# Altium schematic symbol library heromap.SchLib: 513 symbols (part 3 of 4)
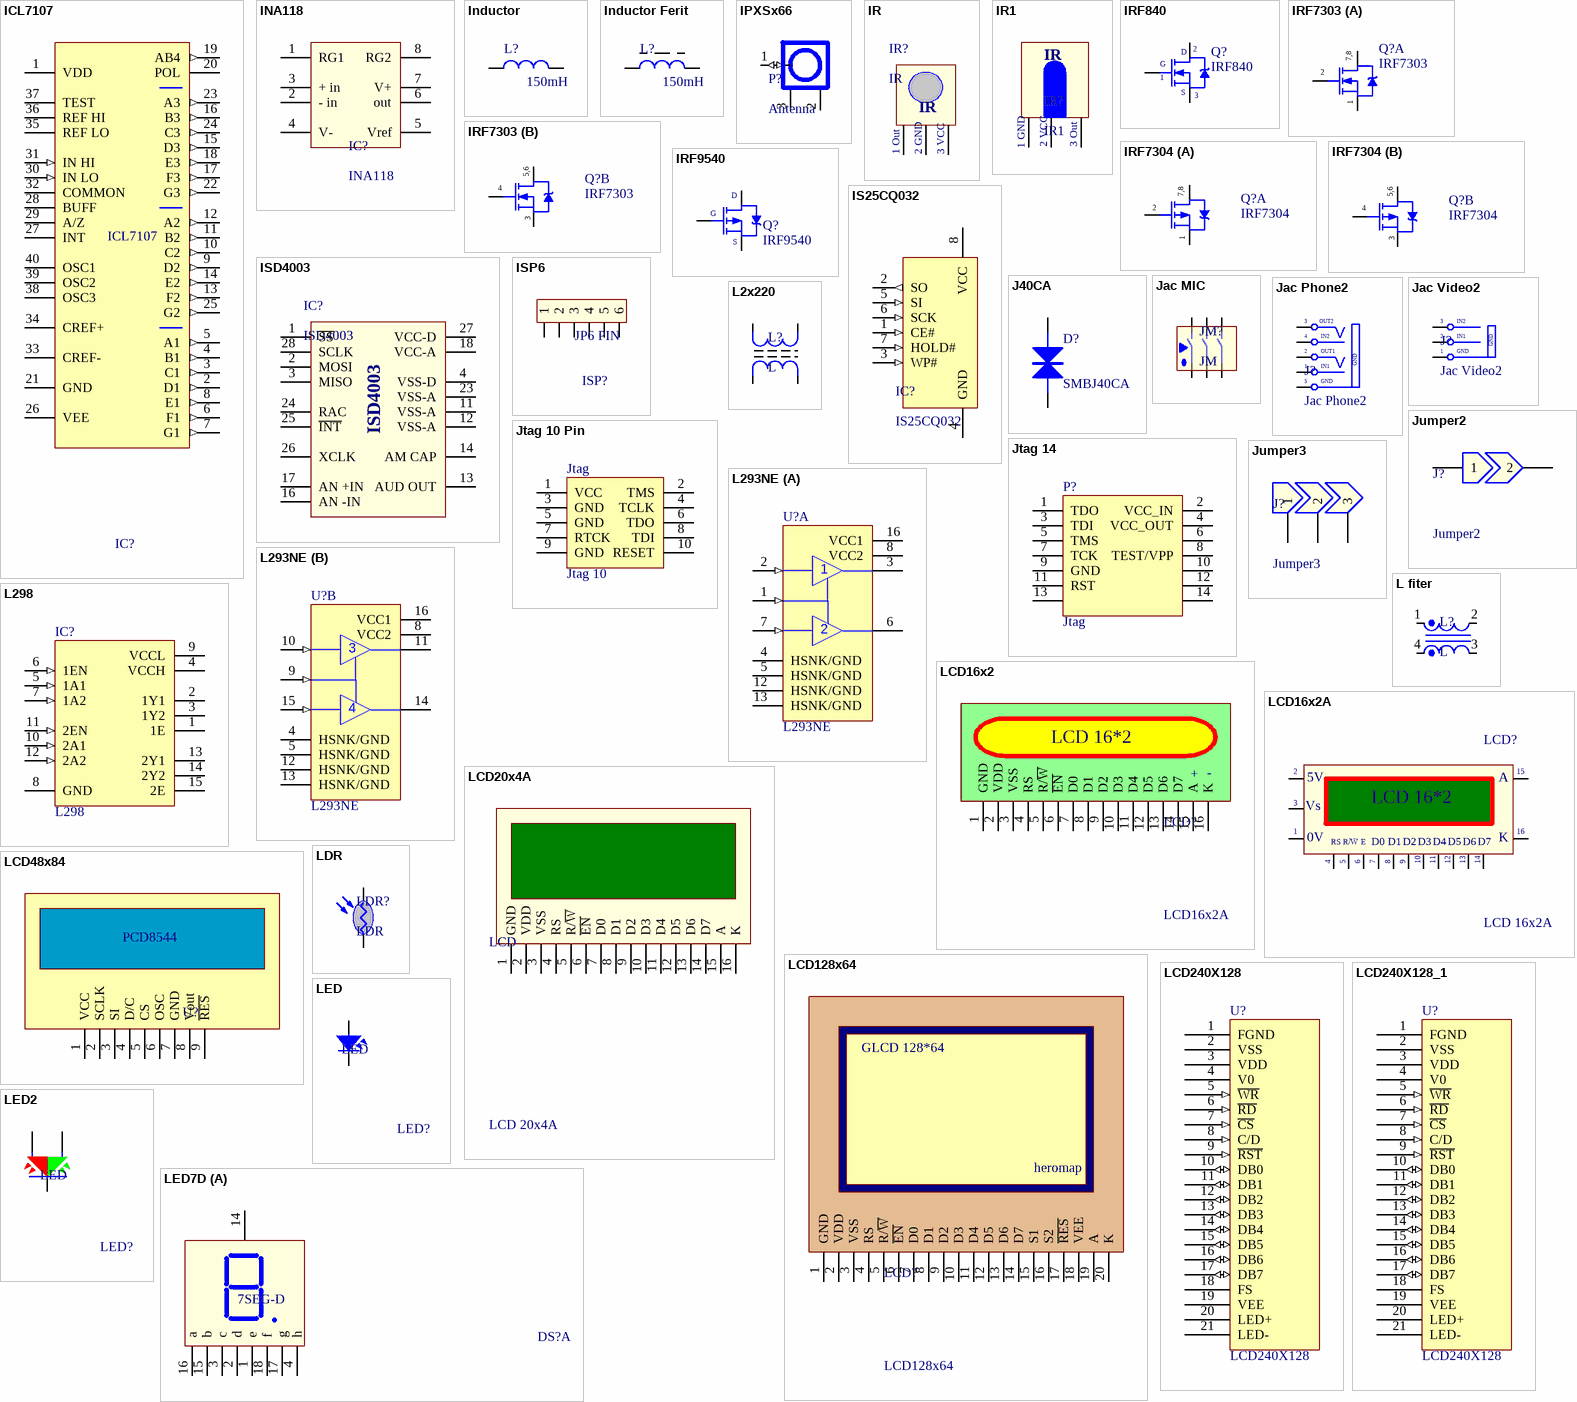
[diagram p21: symbols ICL7107 to LED7D]

## IRF7303
designator Q?
HEXFET Power MOSFET; Published: 8-Jun-2000; LatestRevisionDate: 13-Apr-2006; LatestRevisionNote: IPC-7351 Footprint Added.; DatasheetVersion: Aug-1997; PackageVersion: Feb-2001; PackageReference: SO-8; Publisher: Altium Limited; PackageDescription: 8-Pin Plastic Small Outline Integrated Circuit 1.27 mm Pitch; Code_JEDEC: MS-012-AA; Code_IPC: SOIC127P600-8; ComponentLink1Description: Manufacturer Link; ComponentLink1URL: http://www.irf.com/; ComponentLink2Description: Datasheet; ComponentLink2URL: http://www.irf.com/product-info/datasheets/data/irf7303.pdf
footprint TIWI_SL_MOD
simulation model IRF7303 (SUBCKT)
part A pins: 1 S, 2 G, 7 D, 8 D
part B pins: 3 S, 4 G, 5 D, 6 D
part A text: 7,8
part B text: 5,6

## IRF7304
designator Q?
HEXFET Power MOSFET; Published: 8-Jun-2000; LatestRevisionDate: 13-Apr-2006; LatestRevisionNote: IPC-7351 Footprint Added.; DatasheetVersion: Aug-1997; PackageVersion: Feb-2001; PackageReference: SO-8; Publisher: Altium Limited; PackageDescription: 8-Pin Plastic Small Outline Integrated Circuit 1.27 mm Pitch; Code_JEDEC: MS-012-AA; Code_IPC: SOIC127P600-8; ComponentLink1Description: Manufacturer Link; ComponentLink1URL: http://www.irf.com/; ComponentLink2Description: Datasheet; ComponentLink2URL: http://www.irf.com/product-info/datasheets/data/irf7304.pdf
footprint SO-8 (8-Pin Small Outline Integrated Circuit 1.27 mm Pitch, IPC Medium Density)
simulation model IRF7304 (SUBCKT)
part A pins: 1 S, 2 G, 7 D, 8 D
part B pins: 3 S, 4 G, 5 D, 6 D
part A text: 7,8
part B text: 5,6

## IRF9540
designator Q?
HEXFET P-Channel Power MOSFET; Note: Pin 2 is electrically connected to pin 4.; Published: 8-Jun-2000; LatestRevisionDate: 17-Jul-2002; LatestRevisionNote: Re-released for DXP Platform.; DatasheetVersion: PD-9.421C; PackageVersion: Feb-1997; PackageReference: TO-220AB; Publisher: Altium Limited; PackageDescription: TO, Thru-Hole, Vertical, Heatsink Mounted; 3 In-Line Leads; Pitch 2.54 mm; ComponentLink1Description: Manufacturer Link; ComponentLink1URL: http://www.irf.com/; ComponentLink2Description: Datasheet; ComponentLink2URL: http://www.irf.com/product-info/datasheets/data/irf9540.pdf
footprint QTO-220 (TO-220 - 1-2-3)
simulation model IRF9540 (SUBCKT)
pins: 1 G, 2 D, 3 S

## IS25CQ032
designator IC?
Flash 32Mbit
footprint SO-G8/Z7.45 (Small Outline; 8 Leads; Body Width 3.9 mm; Pitch 1.27 mm)
pins: 1 CE# (in), 2 SO (out), 3 WP# (in), 4 GND, 5 SI (in), 6 SCK (in), 7 HOLD# (in), 8 VCC

## ISD4003
designator IC?
Single-chip voice Record/Playback solution
footprint DIP28/W0.6 (DIP28/W.600, Pin to pin 100mil)
pins: 1 ~{SS}, 2 MOSI, 3 MISO, 4 VSS-D, 11 VSS-A, 12 VSS-A, 13 AUD OUT, 14 AM CAP, 16 AN -IN, 17 AN +IN, 18 VCC-A, 23 VSS-A, 24 RAC, 25 ~{INT}, 26 XCLK, 27 VCC-D, 28 SCLK

## ISP6
designator ISP?, comment JP6 PIN
ISP6 PIN; Value: JP7
footprint ISP6 (Jac nap PIC)
pins: 1, 2, 3, 4, 5, 6, 7, 8

## J40CA
designator D?  (value not drawn)
Trancient Voltage Suppressor SMBJ40CA, SMA
footprint SMAJ24CA
footprint SMB
pins: 1 A, 2 K
text: SMBJ40CA

## Jac MIC
designator JM?, comment JM
Jac Micro; Value: Jac MIC to 6 pin
footprint MIC6 (Jac Mic 6 pin to)
pins: 1, 2, 3, 4, 5, 6

## Jac Phone2
designator J?
Jac Phone Stereo; Creat by: VanDungEvn@Gmail.com
footprint JacPhone2 (Jac Phone Stereo)
footprint JAC_PHONE2 (Jac Phone Stereo)
pins: 1 S1 (power) "Sleeve (Ground)", 2 S1 "Tip Normal (Break Contact)", 3 TN "Tip Normal (Break Contact)", 4 S (power) "Sleeve (Ground)", 5 GND "Tip"
text: OUT2; IN2; OUT1; IN1

## Jac Video2
designator J?
Jac Video Stereo
footprint Jac Video2 (Jac Video Stereo)
pins: 1 GND "Tip", 2 S1 (power) "Sleeve (Ground)", 3 S2 "Tip Normal (Break Contact)"
text: IN2; IN1

## Jtag 10 Pin
designator Jtag, comment Jtag 10
Jtag 10 Pin; LatestRevisionDate: 17-Jul-2002; LatestRevisionNote: Re-released for DXP Platform.; Publisher: Altium Limited
footprint HDR2X5 (Connector; Header; 5x2 Position)
pins: 1 VCC, 2 TMS, 3 GND, 4 TCLK, 5 GND, 6 TDO, 7 RTCK, 8 TDI, 9 GND, 10 RESET

## Jtag 14
designator P?, comment Jtag
Jtag 14 pin & BSL for MSP430; LatestRevisionDate: 17-Jul-2002; LatestRevisionNote: Re-released for DXP Platform.; Publisher: Altium Limited
footprint HDR2X7 (Connector; Header; 7x2 Position)
pins: 1 TDO, 2 VCC_IN, 3 TDI, 4 VCC_OUT, 5 TMS, 6 NC, 7 TCK, 8 TEST/VPP, 9 GND, 10 NC, 11 RST, 12 BSL-Tx, 13 BSL_GND, 14 BSL-Rx

## Jumper2
designator J?
Jumper, 2-Pin
footprint Jumper2_SMD (Compoment SMD 80x50mil)
pins: 1, 2

## Jumper3
designator J?
Jumper, 3-Pin
footprint Jumper3-SMD (Footprint not found)
pins: 1, 2, 3

## L2x220
designator L?, comment L
Inductor; Value: Loc 220; Designed by: VanDungEvn
footprint L2x220 (Loc 220)
pins: 1, 2, 3, 4

## L293NE
designator U?
Quadruple Half-H Driver; Published: 15-May-2002; LatestRevisionDate: 04-Mar-2005; LatestRevisionNote: Stylized 3D Model Added.; DatasheetVersion: May-1990; PackageVersion: 1991; PackageReference: NE016; Publisher: Altium Limited; PackageDescription: DIP; 16 Leads; Row Spacing 7.62 mm; Pitch 2.54 mm; Code_JEDEC: MS-001-BB; ComponentLink1Description: Manufacturer Link; ComponentLink1URL: http://www.ti.com/; ComponentLink2Description: Datasheet; ComponentLink2URL: http://www-s.ti.com/sc/ds/l293.pdf
footprint DIP16/W0.3 (16 PIN, W 300mil, Pin to pin 100mil)
pins on every part: 4 HSNK/GND (power), 5 HSNK/GND (power), 8 VCC2 (power), 12 HSNK/GND (power), 13 HSNK/GND (power), 16 VCC1 (power)
part A pins: 1 1,2EN (in), 2 1A (in), 3 1Y (hiz), 6 2Y (hiz), 7 2A (in)
part B pins: 9 3,4EN (in), 10 3A (in), 11 3Y (hiz), 14 4Y (hiz), 15 4A (in)

## L298
designator IC?
Dual Full-H Driver; Note: The tab is elec is connected to GND pin; Published: 15-May-2002; DatasheetVersion: Jun-1990; PackageReference: KV015; Publisher: Altium Limited; PackageDescription: TO, Thru-Hole, Vertical, Heatsink Mounted; 15 Bent Staggered Leads; Pitch 1.27 mm; ComponentLink1Description: Manufacturer Link; ComponentLink1URL: http://www.ti.com/
footprint DIP15SL2 (TO, Thru-Hole, Vertical, Heatsink Mounted; 15 Bent Staggered Leads; Pitch 1.27 mm)
pins: 1 1E, 2 1Y1 (hiz), 3 1Y2 (hiz), 4 VCCH (power), 5 1A1 (in), 6 1EN (in), 7 1A2 (in), 8 GND (power), 9 VCCL (power), 10 2A1 (in), 11 2EN (in), 12 2A2 (in), 13 2Y1 (hiz), 14 2Y2 (hiz), 15 2E

## L fiter
designator L?, comment L
Inductor; Value: Loc 220; Designed by: VanDungEvn
footprint L fiter (Fiter)
pins: 1, 2, 3, 4

## LCD16x2
designator LCD?, comment LCD16x2A
LCD dipslay 16 char, 2 line; Value: LCD16x2A
footprint LCD16X2N (LCD dipslay 16x2, 16 pin)
footprint LCD16X2 (LCD dipslay 16x2, 16 pin)
pins: 1 GND, 2 VDD, 3 VSS, 4 RS, 5 R/~{W}, 6 ~{EN}, 7 D0, 8 D1, 9 D2, 10 D3, 11 D4, 12 D5, 13 D6, 14 D7, 15 A, 16 K
text: LCD 16*2; -; +

## LCD16x2A
designator LCD?, comment LCD 16x2A
LCD dipslay 16 char, 2 line; Value: LCD16x2A
footprint LCD16X2 (LCD dipslay 16x2, 16 pin)
footprint LCD16X2N (LCD dipslay 16x2, 16 pin)
pins: 1 GND, 2 VDD, 3 VEE, 4 RS, 5 R/~{W}, 6 ~{EN}, 7 D0, 8 D1, 9 D2, 10 D3, 11 D4, 12 D5, 13 D6, 14 D7, 15 A, 16 K
text: 5V; LCD 16*2; Vs; |; 0V; R/W; E

## LCD20x4A
designator LCD, comment LCD 20x4A
LCD dipslay 20 char, 4 line; Value: Jum 40; Value: LCD 20x4A
footprint LCD 20x4A (Footprint not found)
pins: 1 GND, 2 VDD, 3 VSS, 4 RS, 5 R/~{W}, 6 ~{EN}, 7 D0, 8 D1, 9 D2, 10 D3, 11 D4, 12 D5, 13 D6, 14 D7, 15 A, 16 K

## LCD48x84
designator U?, comment PCD8544
LCD Graphic; Value: PCD8544
footprint DIP10 (Footprint not found)
pins: 1 VCC, 2 SCLK, 3 SI, 4 D/C, 5 CS, 6 OSC, 7 GND, 8 Vout, 9 ~{RES}

## LCD128x64
designator LCD?
LCD Graphic 128x64; Value: LCD 128x64
footprint LCD128x64 (LCD Graphic 128x64, 20 pin)
footprint LCD12864 (GLCD)
pins: 1 GND, 2 VDD, 3 VSS, 4 RS, 5 R/~{W}, 6 ~{EN}, 7 D0, 8 D1, 9 D2, 10 D3, 11 D4, 12 D5, 13 D6, 14 D7, 15 S1, 16 S2, 17 ~{RES}, 18 VEE, 19 A, 20 K
text: GLCD 128*64; heromap

## LCD240X128
designator U?
Mµn h×nh LCD 240x128
footprint LCD
pins: 1 FGND, 2 VSS, 3 VDD, 4 V0, 5 ~{WR} (in), 6 ~{RD} (in), 7 ~{CS} (in), 8 C/D (in), 9 ~{RST} (in), 10 DB0 (io), 11 DB1 (io), 12 DB2 (io), 13 DB3 (io), 14 DB4 (io), 15 DB5 (io), 16 DB6 (io), 17 DB7 (io), 18 FS, 19 VEE, 20 LED+, 21 LED-

## LCD240X128_1
designator U?, comment LCD240X128
Mµn h×nh LCD 240x128
footprint LCD
pins: 1 FGND, 2 VSS, 3 VDD, 4 V0, 5 ~{WR} (in), 6 ~{RD} (in), 7 ~{CS} (in), 8 C/D (in), 9 ~{RST} (in), 10 DB0 (io), 11 DB1 (io), 12 DB2 (io), 13 DB3 (io), 14 DB4 (io), 15 DB5 (io), 16 DB6 (io), 17 DB7 (io), 18 FS, 19 VEE, 20 LED+, 21 LED-

## LDR
designator LDR?
Quang Tro
footprint CDS (Footprint not found)
pins: 1 A, 2 K

## LED
designator LED?
LED Single colour Green and Red; Value: LED 3 ly Single Colour
footprint LED-3 (LED 2 PIN, 3ly Only colour)
footprint LED-V (LED 2 PIN, Rectang Only colour)
footprint LED-O (LED 2 PIN,  Ovan Only colour, pin to pin 110mil)
footprint LED-5 GRe (LED 2 PIN, 5 ly , Only colour,pin to pin 100mil)
footprint LED-5TRED (LED 2 PIN, 5 ly , Only colour, pin to pin 110mil)
footprint L-0805 (Compoment SMD 80x50mil)
pins: 1, 2

## LED2
designator LED?, comment LED
LED 2 colour Green and Red; Value: LED 3 - 5 ly 2 Colour
footprint LED-32 (LED 3 PIN, 3ly Two colour)
footprint LED-52 (LED 3 PIN, 5 ly , Two colour)
pins: 1, 2, 3

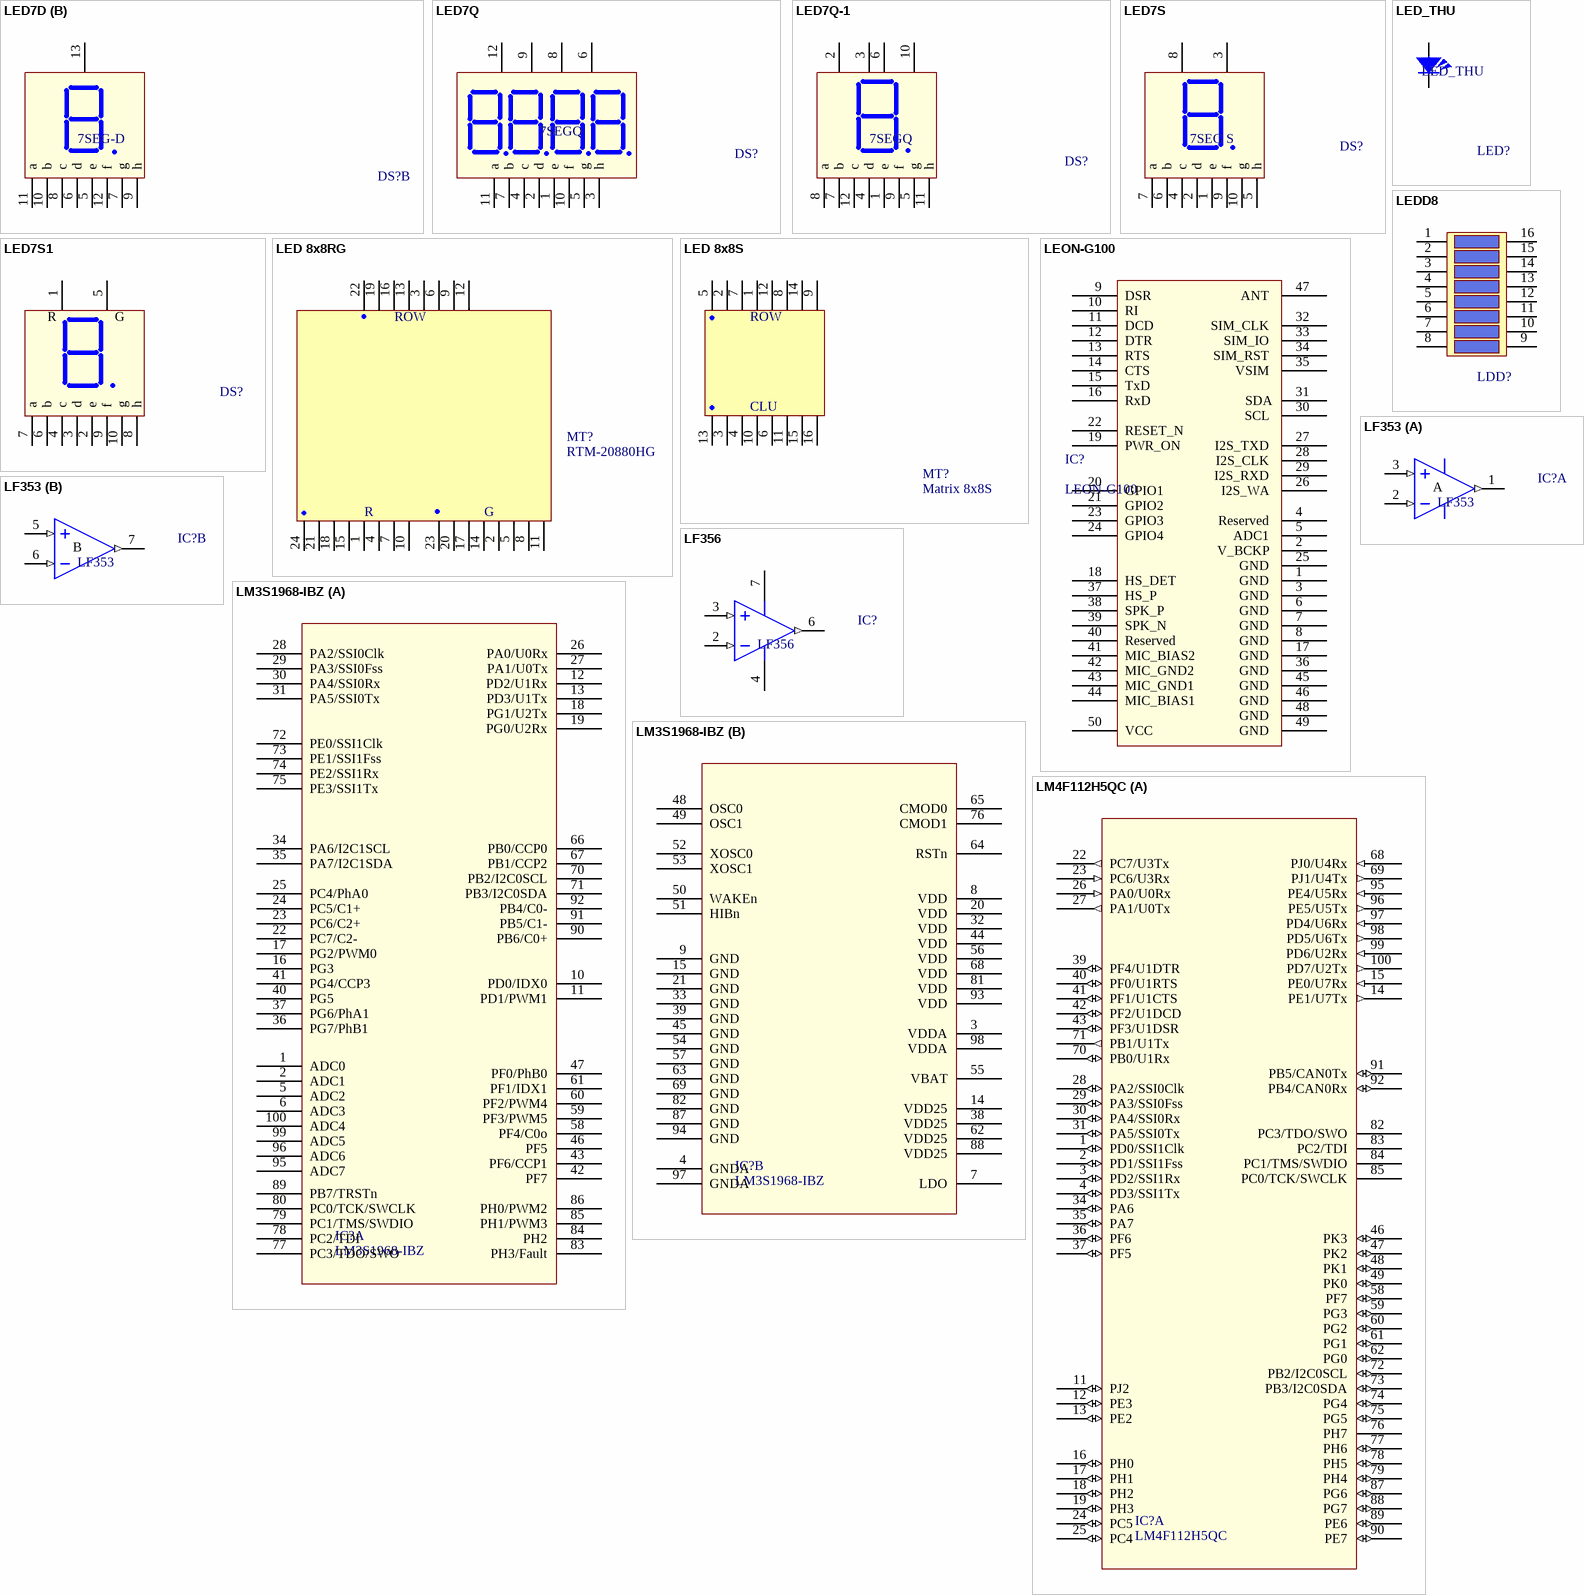
[diagram p11: symbols LED7D to LM4F112H5QC]

## LED7D
designator DS?, comment 7SEG-D
Two 7 Seg Dipslay; Value: LED 7D SEG
footprint 7SEGD (DIP 18Leads; Body 24 x 15 mm; Pitch 0.5 mm)
part A pins: 1 e, 2 d, 3 c, 4 h, 14 V1, 15 b, 16 a, 17 g, 18 f
part B pins: 5 e, 6 d, 7 g, 8 c, 9 h, 10 b, 11 a, 12 f, 13 V2

## LED7Q
designator DS?, comment 7SEGQ
Four 7 Seg Dipslay; Value: LED 7Q SEG
footprint 7SEGQ (DIP 12 Leads; Body 48 x 20 mm; Pitch 0.5 mm)
footprint 7SEGQ-N (DIP 12 Leads; Body 32x 15 mm; Pitch 0.5 mm)
pins: 1 e, 2 d, 3 h, 4 c, 5 g, 6 V4, 7 b, 8 V3, 9 V2, 10 f, 11 a, 12 V1

## LED7Q-1
designator DS?, comment 7SEGQ
Four 7 Seg Dipslay; Value: LED 7Q SEG
footprint 7SEGQ (DIP 12 Leads; Body 48 x 20 mm; Pitch 0.5 mm)
pins: 1 e, 2 V1, 3 V2, 4 d, 5 g, 6 V3, 7 b, 8 a, 9 f, 10 V4, 11 h, 12 c

## LED7S
designator DS?, comment 7SEG S
Single 7 Seg Dipslay; Value: LED 7S SEG
footprint 7SEGS (DIP 10 Leads; Body 12 x 15 mm; Pitch 0.5 mm)
pins: 1 e, 2 d, 3 Vcc, 4 c, 5 h, 6 b, 7 a, 8 Vcc, 9 f, 10 g

## LED7S1
designator DS?, comment 7SEG S  (value not drawn)
Single 7 Seg Dipslay 29x41 mm; Value: LED 7S SEG
footprint 7SEG_29x41 (DIP 10 Leads; Body 29 x 41 mm; Pitch 0.5 mm)
footprint 7SEG_37x55 (DIP 10 Leads; Body 29 x 41 mm; Pitch 0.5 mm)
pins: 1 R, 2 e, 3 d, 4 c, 5 COM, 6 b, 7 a, 8 h, 9 f, 10 g
text: G

## LED 8x8RG
designator MT?, comment RTM-20880HG
Matrix 8x8, Two colour; Value: Matrix 8x8 two colour
footprint 8x8RG (Matran 8x8 2mau,Body 60 X 60mm)
pins: 1 R5, 2 G5, 3 H5, 4 R6, 5 G6, 6 H6, 7 R7, 8 G7, 9 H7, 10 R8, 11 G8, 12 H8, 13 H4, 14 G4, 15 R4, 16 H3, 17 G3, 18 R3, 19 H2, 20 G2, 21 R2, 22 H1, 23 G1, 24 R1
text: ROW; R; G

## LED 8x8S
designator MT?, comment Matrix 8x8S
Matrix 8x8,  Single colour; Value: Matrix 8x8S
footprint 8x8S (Matran 8x8, Body 60 X 60mm)
pins: 1 H4, 2 H2, 3 C2, 4 C3, 5 H1, 6 C5, 7 H3, 8 H6, 9 H8, 10 C4, 11 C6, 12 H5, 13 C1, 14 H7, 15 C7, 16 C8
text: ROW; CLU

## LED_THU
designator LED?
LED Single colour Green and Red; Value: LED 3 ly Single Colour
footprint LED-3 (LED 2 PIN, 3ly Only colour)
footprint LED-V (LED 2 PIN, Rectang Only colour)
footprint LED-O (LED 2 PIN,  Ovan Only colour, pin to pin 110mil)
footprint LED-5 GRe (LED 2 PIN, 5 ly , Only colour,pin to pin 100mil)
footprint LED-5TRED (LED 2 PIN, 5 ly , Only colour, pin to pin 110mil)
pins: 1, 2

## LEDD8
designator LDD?, comment LED DIP 8  (value not drawn)
Value: LED DIP 8
footprint DIP16/W0.3 key (Footprint not found)
pins: 1, 2, 3, 4, 5, 6, 7, 8, 9, 10, 11, 12, 13, 14, 15, 16

## LEON-G100
designator IC?
LEON-G100 quad-band GSM/GPRS
footprint LEON-G100 (LCC, 50-Pins, Body 19,0x30,1mm (max), Pitch 1,10mm, IPC Medium Density)
pins: 1 GND , 2 V_BCKP , 3 GND , 4 Reserved , 5 ADC1 , 6 GND , 7 GND , 8 GND , 9 DSR , 10 RI , 11 DCD , 12 DTR , 13 RTS , 14 CTS , 15 TxD , 16 RxD, 17 GND , 18 HS_DET, 19 PWR_ON , 20 GPIO1 , 21 GPIO2 , 22 RESET_N , 23 GPIO3 , 24 GPIO4 , 25 GND , 26 I2S_WA , 27 I2S_TXD , 28 I2S_CLK , 29 I2S_RXD , 30 SCL , 31 SDA, 32 SIM_CLK , 33 SIM_IO , 34 SIM_RST , 35 VSIM , 36 GND , 37 HS_P , 38 SPK_P , 39 SPK_N , 40 Reserved , 41 MIC_BIAS2 , 42 MIC_GND2 , 43 MIC_GND1, 44 MIC_BIAS1 , 45 GND , 46 GND , 47 ANT , 48 GND , 49 GND , 50 VCC 

## LF353
designator IC?
Wide-Bandwidth Dual JFET Input Operational Amplifier; Published: 15-Apr-2002; LatestRevisionDate: 06-Jun-2005; LatestRevisionNote: Stylized 3D Model Added.; DatasheetDocument: Apr-1998; PackageDocument: Sep-1997; Publisher: Altium Limited; ComponentLink1Description: Manufacturer Link; ComponentLink1URL: http://www.national.com/; ComponentLink2Description: Datasheet; ComponentLink2URL: http://www.national.com/ds.cgi/LF/LF353.pdf; ComponentLink3Description: URL Link1; ComponentLink3URL: http://www.national.com/pf/LF/LF353.html; Value: LF353
footprint DIP8/W0.3 (8 PIN, W 300mil, Pin to pin 100mil)
part A pins: 1 OUT (out), 2 IN- (in), 3 IN+ (in)
part B pins: 5 IN+ (in), 6 IN- (in), 7 OUT (out)
part A text: A
part B text: B

## LF356
designator IC?
Wide-Bandwidth Single JFET Input Operational Amplifier; Published: 15-Apr-2002; LatestRevisionDate: 06-Jun-2005; LatestRevisionNote: Stylized 3D Model Added.; DatasheetDocument: Apr-1998; PackageDocument: Sep-1997; Publisher: Altium Limited; ComponentLink1Description: Manufacturer Link; ComponentLink1URL: http://www.national.com/; ComponentLink2Description: Datasheet; ComponentLink2URL: http://www.national.com/ds.cgi/LF/LF353.pdf; ComponentLink3Description: URL Link1; ComponentLink3URL: http://www.national.com/pf/LF/LF353.html; Value: LF356
footprint DIP8/W0.3 (8 PIN, W 300mil, Pin to pin 100mil)
pins: 2 IN- (in), 3 IN+ (in), 4 V- (power), 6 OUT (out), 7 V+ (power)

## LM3S1968-IBZ
designator IC?
Stellaris ARM Cortex-M3 Microcontroller; Value: LM324
part A pins: 1 ADC0, 2 ADC1, 5 ADC2, 6 ADC3, 10 PD0/IDX0, 11 PD1/PWM1, 12 PD2/U1Rx, 13 PD3/U1Tx, 16 PG3, 17 PG2/PWM0, 18 PG1/U2Tx, 19 PG0/U2Rx, 22 PC7/C2-, 23 PC6/C2+, 24 PC5/C1+, 25 PC4/PhA0, 26 PA0/U0Rx, 27 PA1/U0Tx, 28 PA2/SSI0Clk, 29 PA3/SSI0Fss, 30 PA4/SSI0Rx, 31 PA5/SSI0Tx, 34 PA6/I2C1SCL, 35 PA7/I2C1SDA, 36 PG7/PhB1, 37 PG6/PhA1, 40 PG5, 41 PG4/CCP3, 42 PF7, 43 PF6/CCP1, 46 PF5, 47 PF0/PhB0, 58 PF4/C0o, 59 PF3/PWM5, 60 PF2/PWM4, 61 PF1/IDX1, 66 PB0/CCP0, 67 PB1/CCP2, 70 PB2/I2C0SCL, 71 PB3/I2C0SDA, 72 PE0/SSI1Clk, 73 PE1/SSI1Fss, 74 PE2/SSI1Rx, 75 PE3/SSI1Tx, 77 PC3/TDO/SWO, 78 PC2/TDI, 79 PC1/TMS/SWDIO, 80 PC0/TCK/SWCLK, 83 PH3/Fault, 84 PH2, 85 PH1/PWM3, 86 PH0/PWM2, 89 PB7/TRSTn, 90 PB6/C0+, 91 PB5/C1-, 92 PB4/C0-, 95 ADC7, 96 ADC6, 99 ADC5, 100 ADC4
part B pins: 3 VDDA, 4 GNDA, 7 LDO, 8 VDD, 9 GND, 14 VDD25, 15 GND, 20 VDD, 21 GND, 32 VDD, 33 GND, 38 VDD25, 39 GND, 44 VDD, 45 GND, 48 OSC0, 49 OSC1, 50 WAKEn, 51 HIBn, 52 XOSC0, 53 XOSC1, 54 GND, 55 VBAT, 56 VDD, 57 GND, 62 VDD25, 63 GND, 64 RSTn, 65 CMOD0, 68 VDD, 69 GND, 76 CMOD1, 81 VDD, 82 GND, 87 GND, 88 VDD25, 93 VDD, 94 GND, 97 GNDA, 98 VDDA

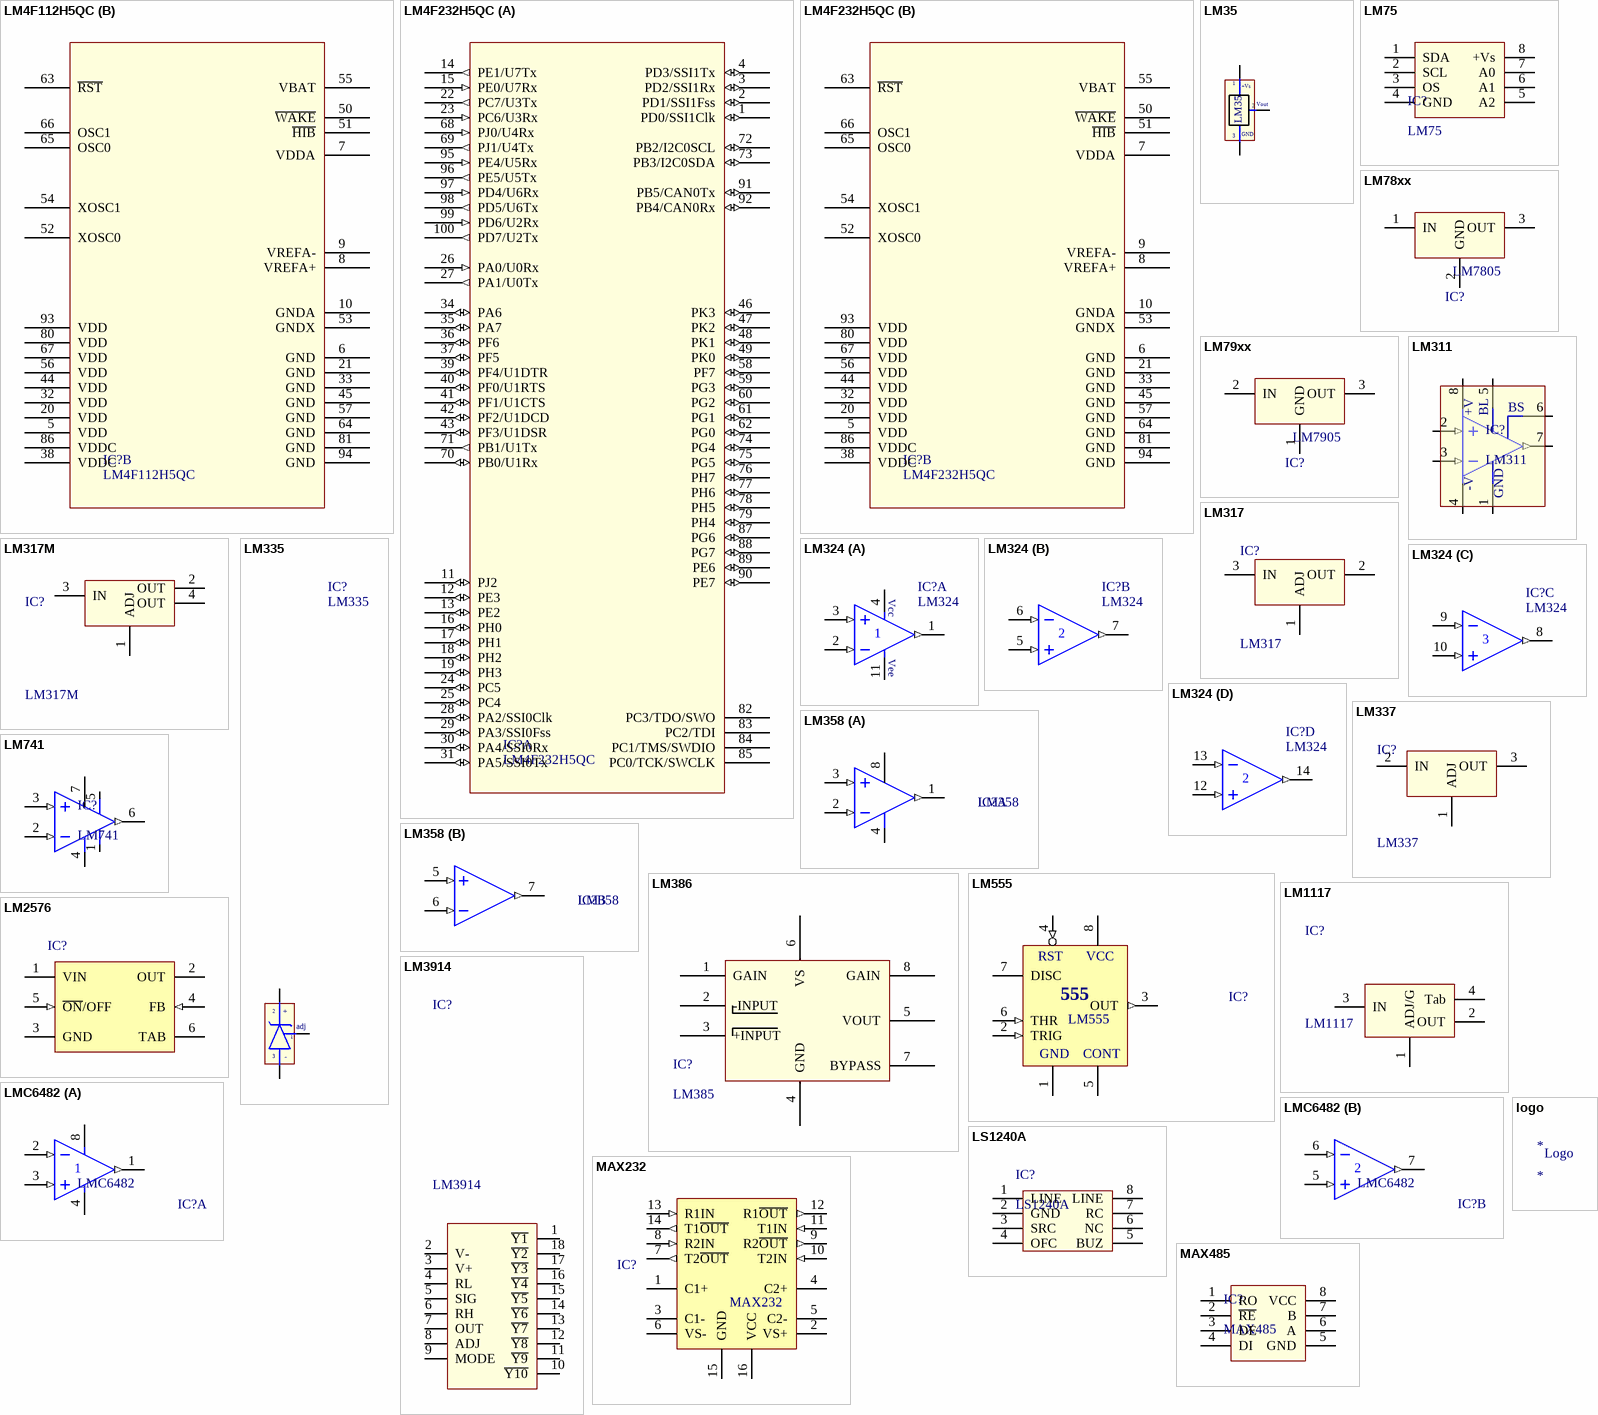
[diagram p12: symbols LM4F112H5QC to MAX485]

## LM4F112H5QC
designator IC?
Stellaris  ® LM4F112H5QC Microcontroller; Value: LM324
part A pins: 1 PD0/SSI1Clk (io), 2 PD1/SSI1Fss (io), 3 PD2/SSI1Rx (io), 4 PD3/SSI1Tx (io), 11 PJ2 (io), 12 PE3 (io), 13 PE2 (io), 14 PE1/U7Tx (out), 15 PE0/U7Rx (in), 16 PH0 (io), 17 PH1 (io), 18 PH2 (io), 19 PH3 (io), 22 PC7/U3Tx (out), 23 PC6/U3Rx (in), 24 PC5 (io), 25 PC4 (io), 26 PA0/U0Rx (in), 27 PA1/U0Tx (out), 28 PA2/SSI0Clk (io), 29 PA3/SSI0Fss (io), 30 PA4/SSI0Rx (io), 31 PA5/SSI0Tx (io), 34 PA6 (io), 35 PA7 (io), 36 PF6 (io), 37 PF5 (io), 39 PF4/U1DTR (io), 40 PF0/U1RTS (io), 41 PF1/U1CTS (io), 42 PF2/U1DCD (io), 43 PF3/U1DSR (io), 46 PK3 (io), 47 PK2 (io), 48 PK1 (io), 49 PK0 (io), 58 PF7 (io), 59 PG3 (io), 60 PG2 (io), 61 PG1 (io), 62 PG0 (io), 68 PJ0/U4Rx (in), 69 PJ1/U4Tx (out), 70 PB0/U1Rx (io), 71 PB1/U1Tx (out), 72 PB2/I2C0SCL (io), 73 PB3/I2C0SDA (io), 74 PG4 (io), 75 PG5 (io), 76 PH7, 77 PH6 (io), 78 PH5 (io), 79 PH4 (io), 82 PC3/TDO/SWO, 83 PC2/TDI, 84 PC1/TMS/SWDIO, 85 PC0/TCK/SWCLK, 87 PG6 (io), 88 PG7 (io), 89 PE6 (io), 90 PE7 (io), 91 PB5/CAN0Tx (io), 92 PB4/CAN0Rx (io), 95 PE4/U5Rx (in), 96 PE5/U5Tx (out), 97 PD4/U6Rx (in), 98 PD5/U6Tx (out), 99 PD6/U2Rx (in), 100 PD7/U2Tx (out)
part B pins: 5 VDD (power), 6 GND (power), 7 VDDA (power), 8 VREFA+ (power), 9 VREFA- (power), 10 GNDA (power), 20 VDD (power), 21 GND (power), 32 VDD (power), 33 GND (power), 38 VDDC (power), 44 VDD (power), 45 GND (power), 50 ~{WAKE}, 51 ~{HIB}, 52 XOSC0, 53 GNDX (power), 54 XOSC1, 55 VBAT (power), 56 VDD (power), 57 GND (power), 63 ~{RST}, 64 GND (power), 65 OSC0, 66 OSC1, 67 VDD (power), 80 VDD (power), 81 GND (power), 86 VDDC (power), 93 VDD (power), 94 GND (power)

## LM4F232H5QC
designator IC?
Stellaris  ® LM4F232H5QC Microcontroller; Value: LM324
footprint QFP50P1600X1600X160-100N (QFP,0.50mm pitch,square;25 pin X 25 pin,14.00mm X 14.00mm X 1.60mm H body)
part A pins: 1 PD0/SSI1Clk (io), 2 PD1/SSI1Fss (io), 3 PD2/SSI1Rx (io), 4 PD3/SSI1Tx (io), 11 PJ2 (io), 12 PE3 (io), 13 PE2 (io), 14 PE1/U7Tx (out), 15 PE0/U7Rx (in), 16 PH0 (io), 17 PH1 (io), 18 PH2 (io), 19 PH3 (io), 22 PC7/U3Tx (out), 23 PC6/U3Rx (in), 24 PC5 (io), 25 PC4 (io), 26 PA0/U0Rx (in), 27 PA1/U0Tx (out), 28 PA2/SSI0Clk (io), 29 PA3/SSI0Fss (io), 30 PA4/SSI0Rx (io), 31 PA5/SSI0Tx (io), 34 PA6 (io), 35 PA7 (io), 36 PF6 (io), 37 PF5 (io), 39 PF4/U1DTR (io), 40 PF0/U1RTS (io), 41 PF1/U1CTS (io), 42 PF2/U1DCD (io), 43 PF3/U1DSR (io), 46 PK3 (io), 47 PK2 (io), 48 PK1 (io), 49 PK0 (io), 58 PF7 (io), 59 PG3 (io), 60 PG2 (io), 61 PG1 (io), 62 PG0 (io), 68 PJ0/U4Rx (in), 69 PJ1/U4Tx (out), 70 PB0/U1Rx (io), 71 PB1/U1Tx (out), 72 PB2/I2C0SCL (io), 73 PB3/I2C0SDA (io), 74 PG4 (io), 75 PG5 (io), 76 PH7 (io), 77 PH6 (io), 78 PH5 (io), 79 PH4 (io), 82 PC3/TDO/SWO, 83 PC2/TDI, 84 PC1/TMS/SWDIO, 85 PC0/TCK/SWCLK, 87 PG6 (io), 88 PG7 (io), 89 PE6 (io), 90 PE7 (io), 91 PB5/CAN0Tx (io), 92 PB4/CAN0Rx (io), 95 PE4/U5Rx (in), 96 PE5/U5Tx (out), 97 PD4/U6Rx (in), 98 PD5/U6Tx (out), 99 PD6/U2Rx (in), 100 PD7/U2Tx (out)
part B pins: 5 VDD (power), 6 GND (power), 7 VDDA (power), 8 VREFA+ (power), 9 VREFA- (power), 10 GNDA (power), 20 VDD (power), 21 GND (power), 32 VDD (power), 33 GND (power), 38 VDDC (power), 44 VDD (power), 45 GND (power), 50 ~{WAKE}, 51 ~{HIB}, 52 XOSC0, 53 GNDX (power), 54 XOSC1, 55 VBAT (power), 56 VDD (power), 57 GND (power), 63 ~{RST}, 64 GND (power), 65 OSC0, 66 OSC1, 67 VDD (power), 80 VDD (power), 81 GND (power), 86 VDDC (power), 93 VDD (power), 94 GND (power)

## LM35
designator U?
Teminal; Value: LM35
footprint QTO-92 (TO-92)
pins: 1 +Vs, 2 Vout, 3 -
text: GND

## LM75
designator IC?
footprint SOIC-8 (SOIC, 8-Leads, Body 5,0x4,0mm (max), Pitch 1,27mm, IPC Medium Density)
pins: 1 SDA, 2 SCL, 3 OS, 4 GND (power), 5 A2, 6 A1, 7 A0, 8 +Vs (power)

## LM78xx
designator IC?, comment LM7805
On ap +, from + 5 to + 24VDC; Value: LM7805
footprint QTO-220 (TO-220 - 1-2-3)
footprint QTO-92 (TO-92)
pins: 1 IN, 2 GND, 3 OUT

## LM79xx
designator IC?, comment LM7905
On ap -, from - 5 to - 24VDC; Value: LM7905
footprint QTO-220 (TO-220 - 1-2-3)
pins: 1 GND, 2 IN, 3 OUT

## LM311
designator IC?
Voltage Comparator; Value: DIP 8; Value: LM311
footprint DIP8/W0.3 (8 PIN, W 300mil, Pin to pin 100mil)
footprint SO-8 (8-Pin Small Outline Integrated Circuit 1.27 mm Pitch, IPC Medium Density)
pins: 1 F2 (power), 2 IN+ (in), 3 IN- (in), 4 GND (power), 5 F1 (power), 6 F2 (power), 7 OUT (out), 8 V+ (power)
text: +V; BL; BS; -V

## LM317
designator IC?
Adj Voltage +1.2 -> +37V; Value: LM317
footprint QTO-220 (TO-220 - 1-2-3)
pins: 1 ADJ, 2 OUT, 3 IN

## LM317M
designator IC?
Adj Voltage +1.2 -> +37V; Value: LM317
footprint TO-252 (Footprint not found)
footprint TO229P955X220-4N (KTP D-PAK, 4-Pads, Body 6,3x6,2mm (max), IPC Medium Density)
pins: 1 ADJ, 2 OUT, 3 IN, 4 OUT

## LM324
designator IC?
Op x 4; Value: LM324
footprint DIP14/W0.3 (14PIN, W 300mil, Pin to pin 100mil)
part A pins: 1 OUT (out), 2 IN- (in), 3 IN+ (in), 4 V+ (power), 11 V- (power)
part B pins: 5 IN+ (in), 6 IN- (in), 7 OUT (out)
part C pins: 8 OUT (out), 9 IN- (in), 10 IN+ (in)
part D pins: 12 IN+ (in), 13 IN- (in), 14 OUT (out)
part A text: Vcc; Vee

## LM335
designator IC?
Teminal; Value: LM335
footprint QTO-92 (TO-92)
pins: 1 adj, 2 +, 3 -

## LM337
designator IC?
On ap (-)     -1.2 -> - 37V; Value: LM337
footprint QTO-220 (TO-220 - 1-2-3)
pins: 1 ADJ, 2 IN, 3 OUT

## LM358
designator IC?
Low-Power Dual Operational Amplifier; Value: LM358
footprint DIP8/W0.3 (8 PIN, W 300mil, Pin to pin 100mil)
3D model DIP8 (PCB3D Model)
part A pins: 1 OUT (out), 2 IN- (in), 3 IN+ (in), 4 -V, 8 +V
part B pins: 5 IN+ (in), 6 IN- (in), 7 OUT (out)

## LM386
designator IC?, comment LM385
Low Voltage Audio Power Amplifier
pins: 1 GAIN, 2 -INPUT, 3 +INPUT, 4 GND, 5 VOUT, 6 VS, 7 BYPASS, 8 GAIN

## LM555
designator IC?
Timer; Value: LM555
footprint DIP8/W0.3 (8 PIN, W 300mil, Pin to pin 100mil)
3D model DIP8 (PCB3D Model)
pins: 1 GND (power), 2 TRIG (in), 3 OUT (out), 4 RST (in), 5 CONT, 6 THR (in), 7 DISC (oc), 8 VCC (power)
text: 555

## LM741
designator IC?
Single OA
footprint DIP8/W0.3 (8 PIN, W 300mil, Pin to pin 100mil)
pins: 1 Vos, 2 IN- (in), 3 IN+ (in), 4 -V, 5 Vos, 6 OUT (out), 7 +V

## LM1117
designator IC?
3v3; Value: LM317
footprint SOT223-4N (SOT223, 4-Leads, Body 6.5x3.5mm, Pitch 2.3mm, Lead Span 7mm, IPC Medium Density)
pins: 1 ADJ/G, 2 OUT, 3 IN, 4 Tab

## LM2576
designator IC?  (value not drawn)
footprint TS5B_N
footprint QTO-220-5 (TO, Thru-Hole, Vertical, Heatsink Mounted; 5 In-Line Leads; Pitch 1.70 mm)
footprint QTO-220-5-1 (TO, Thru-Hole, Vertical, Heatsink Mounted; 5 Bent Staggered Leads; Pitch 1.7mm)
footprint QTO-220-5-1N (TO, Thru-Hole, Horizontal, Heatsink Mounted; 5 Bent Staggered Leads; Pitch 1.7 mm)
footprint QTO-220-5-1H1 (TO, Thru-Hole, Vertical, Heatsink Mounted; 5 Bent Staggered Leads; Pitch 1.7mm)
footprint QTO-220-5-1H2 (TO, Thru-Hole, Vertical, Heatsink Mounted; 5 Bent Staggered Leads; Pitch 1.7mm)
footprint TO-263
pins: 1 VIN (power), 2 OUT (power), 3 GND (power), 4 FB (in), 5 ~{ON}/OFF (in), 6 TAB (power)

## LM3914
designator IC?
Value: LM3914
footprint DIP18/W0.3 (18 PIN, W 300mil, Pin to pin 100mil)
3D model DIP18 (PCB3D Model)
pins: 1 ~{Y1}, 2 V-, 3 V+, 4 RL, 5 SIG, 6 RH, 7 OUT, 8 ADJ, 9 MODE, 10 ~{Y10}, 11 ~{Y9}, 12 ~{Y8}, 13 ~{Y7}, 14 ~{Y6}, 15 ~{Y5}, 16 ~{Y4}, 17 ~{Y3}, 18 ~{Y2}

## LMC6482
designator IC?
Dual OA; Value: LMC6482
footprint DIP8/W0.3 (8 PIN, W 300mil, Pin to pin 100mil)
3D model DIP8 (PCB3D Model)
part A pins: 1 OUT (out), 2 IN- (in), 3 IN+ (in), 4 V- (power), 8 V+ (power)
part B pins: 5 IN+ (in), 6 IN- (in), 7 OUT (out)

## logo
designator *
footprint logo elcom 2 (Footprint not found)
footprint logo elcom 1 (Footprint not found)
footprint logo (LogoElcomTek)
text: Logo

## LS1240A
designator IC?
Electronic Two-Tone Ringer
footprint DIP8/W0.3 (8 PIN, W 300mil, Pin to pin 100mil)
pins: 1 LINE, 2 GND, 3 SRC, 4 OFC, 5 BUZ, 6 NC, 7 RC, 8 LINE

## MAX232
designator IC?
Dual EIA-232 Driver/Receiver; Value: MAX232
footprint DIP16/W0.3 (16 PIN, W 300mil, Pin to pin 100mil)
footprint SO-G16 (Small Outline; 16 Leads; Body Width 3.9 mm; Pitch 1.27 mm)
pins: 1 C1+, 2 VS+ (power), 3 C1-, 4 C2+, 5 C2-, 6 VS- (power), 7 T2~{OUT} (out), 8 R2IN (in), 9 R2~{OUT} (out), 10 T2IN (in), 11 T1IN (in), 12 R1~{OUT} (out), 13 R1IN (in), 14 T1~{OUT} (out), 15 GND (power), 16 VCC (power)

## MAX485
designator IC?
RS232 - RS485 (Same sn75176)
footprint DIP8/W0.3 (8 PIN, W 300mil, Pin to pin 100mil)
footprint SO-8 (8-Pin Small Outline Integrated Circuit 1.27 mm Pitch, IPC Medium Density)
pins: 1 RO "Receiver Output", 2 ~{RE} "Receiver Enable Output", 3 DE "Driver Enable Output", 4 DI "Driver Input", 5 GND, 6 A "RI & NoneDO", 7 B "NoneDI", 8 VCC

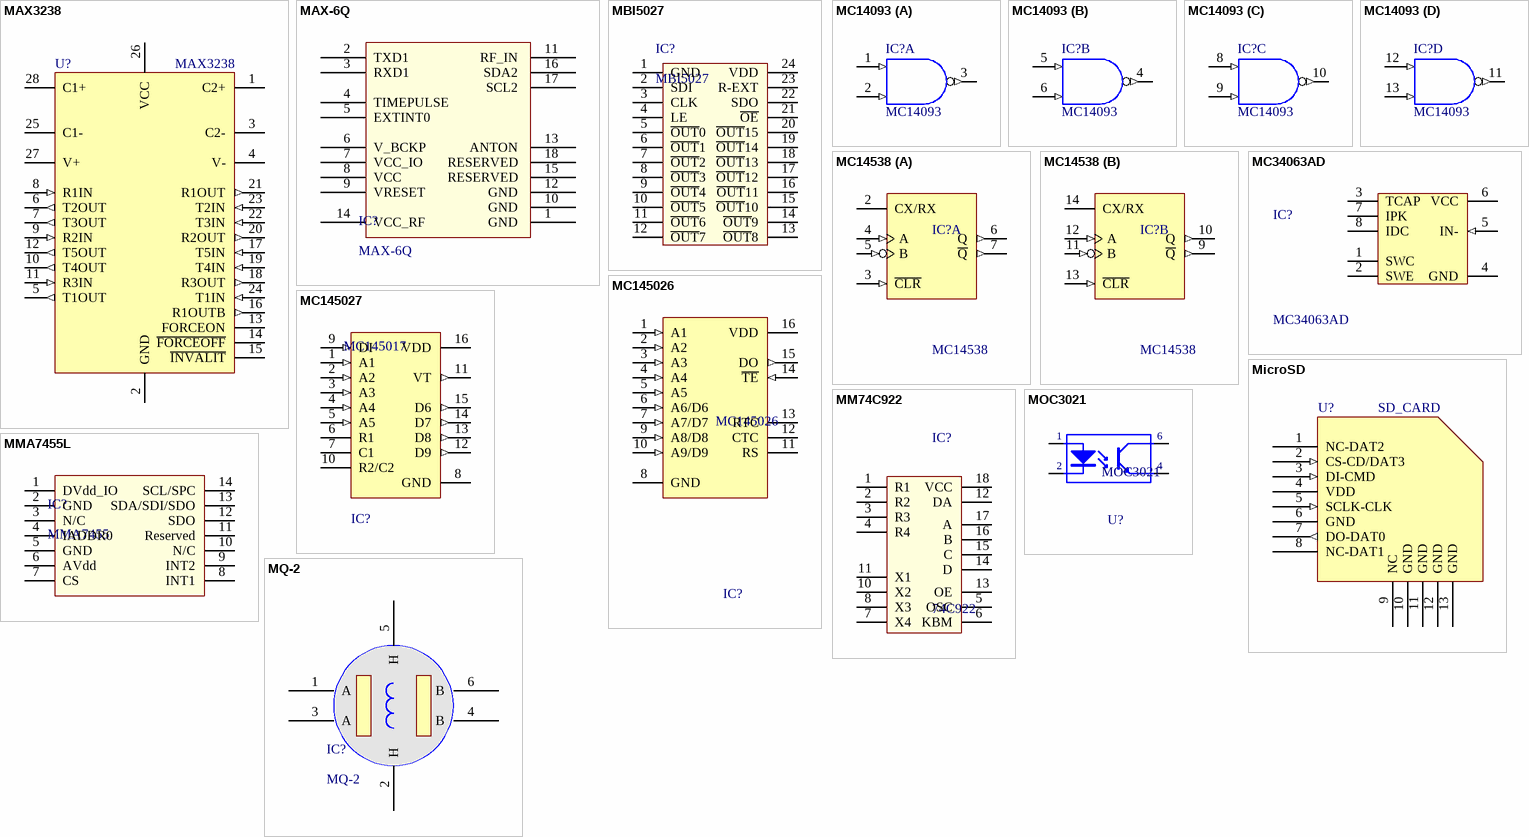
[diagram p13: symbols MAX3238 to MQ-2]

## MAX3238
designator U?
footprint SOIC-28 (SOIC, 16-Leads, Body 10.3x7.5mm (max), Pitch 1.27mm, IPC Medium Density)
pins: 1 C2+, 2 GND, 3 C2-, 4 V-, 5 T1OUT (out), 6 T2OUT (out), 7 T3OUT (out), 8 R1IN (in), 9 R2IN (in), 10 T4OUT (out), 11 R3IN (in), 12 T5OUT (out), 13 FORCEON, 14 ~{FORCEOFF}, 15 ~{INVALIT}, 16 R1OUTB (out), 17 T5IN (in), 18 R3OUT (out), 19 T4IN (in), 20 R2OUT (out), 21 R1OUT (out), 22 T3IN (in), 23 T2IN (in), 24 T1IN (in), 25 C1-, 26 VCC, 27 V+, 28 C1+

## MAX-6Q
designator IC?
MAX-6Q u-blox 6 GPS Modules
footprint SOT23 (SOT 23 _ 1-3-2)
pins: 1 GND , 2 TXD1 , 3 RXD1 , 4 TIMEPULSE , 5 EXTINT0 , 6 V_BCKP , 7 VCC_IO , 8 VCC , 9 VRESET , 10 GND , 11 RF_IN , 12 GND , 13 ANTON , 14 VCC_RF , 15 RESERVED , 16 SDA2 , 17 SCL2 , 18 RESERVED 

## MBI5027
designator IC?
16 bit Constant Current LED; Creat by: VanDungEvn@Gmail.com; Compoment same: SM16126
footprint SOP_24M_127 (SOP, 24-Leads, Body 15.6x8.1mm, Pitch 1.27mm, IPC Low Density)
pins: 1 GND, 2 SDI, 3 CLK, 4 LE, 5 ~{OUT}0, 6 ~{OUT}1, 7 ~{OUT}2, 8 ~{OUT}3, 9 ~{OUT}4, 10 ~{OUT}5, 11 ~{OUT}6, 12 ~{OUT}7, 13 ~{OUT}8, 14 ~{OUT}9, 15 ~{OUT}10, 16 ~{OUT}11, 17 ~{OUT}12, 18 ~{OUT}13, 19 ~{OUT}14, 20 ~{OUT}15, 21 ~{OE}, 22 SDO, 23 R-EXT, 24 VDD

## MC14093
designator IC?
Quad 2-Input NAND Schmitt Trigger; Value: MC14093
footprint DIP14/W0.3 (14PIN, W 300mil, Pin to pin 100mil)
pins on every part: 7 GND (power) hidden to GND, 14 VDD (power) hidden to VDD
part A pins: 1 A (in), 2 B (in), 3 ~{Y} (out)
part B pins: 4 ~{Y} (out), 5 A (in), 6 B (in)
part C pins: 8 A (in), 9 B (in), 10 ~{Y} (out)
part D pins: 11 ~{Y} (out), 12 A (in), 13 B (in)

## MC14538
designator IC?
Dual Precision Retriggerable/Resettable Monostable Multivibrator; Value: MC14538
footprint DIP16/W0.3 (16 PIN, W 300mil, Pin to pin 100mil)
pins on every part: 1 GND (power) hidden to GND, 8 GND (power) hidden to GND, 15 GND (power) hidden to GND, 16 VDD (power) hidden to VDD
part A pins: 2 CX/RX, 3 ~{CLR} (in), 4 A (in), 5 B (in), 6 Q (out), 7 ~{Q} (out)
part B pins: 9 ~{Q} (out), 10 Q (out), 11 B (in), 12 A (in), 13 ~{CLR} (in), 14 CX/RX

## MC34063AD
designator IC?
DC-to-DC Converter Control Circuit; Published: 15-Apr-2002; LatestRevisionDate: 13-Apr-2006; LatestRevisionNote: IPC-7351 Footprint Added.; DatasheetVersion: 1996; PackageVersion: 1998; PackageReference: 751-05; Publisher: Altium Limited; PackageDescription: 8-Pin Small Outline Integrated Circuit 1.27 mm Pitch; Code_JEDEC: MS-012-AA; Code_IPC: SOIC127P600-8; ComponentLink1Description: Manufacturer Link; ComponentLink1URL: http://www.onsemi.com/site/products/taxonomy/0,4438,503,00.html; ComponentLink2Description: Datasheet; ComponentLink2URL: http://www.onsemi.com/pub/Collateral/MC34063A-D.PDF
footprint SO-G8/Z7.45 (Small Outline; 8 Leads; Body Width 3.9 mm; Pitch 1.27 mm)
footprint DIP8/W0.3 (8 PIN, W 300mil, Pin to pin 100mil)
pins: 1 SWC, 2 SWE, 3 TCAP, 4 GND (power), 5 IN- (in), 6 VCC (power), 7 IPK, 8 IDC (oc)

## MC145026
designator IC?
Encoder Remote; Value: MC145026
footprint DIP16/W0.3 (16 PIN, W 300mil, Pin to pin 100mil)
pins: 1 A1 (in), 2 A2 (in), 3 A3 (in), 4 A4 (in), 5 A5 (in), 6 A6/D6 (in), 7 A7/D7 (in), 8 GND (power), 9 A8/D8 (in), 10 A9/D9 (in), 11 RS, 12 CTC, 13 RTC, 14 ~{TE} (in), 15 DO (out), 16 VDD (power)

## MC145027
designator IC?, comment MC145017
Decoder Remote; Value: MC145027
footprint DIP16/W0.3 (16 PIN, W 300mil, Pin to pin 100mil)
pins: 1 A1 (in), 2 A2 (in), 3 A3 (in), 4 A4 (in), 5 A5 (in), 6 R1, 7 C1, 8 GND (power), 9 DI (in), 10 R2/C2, 11 VT (out), 12 D9 (out), 13 D8 (out), 14 D7 (out), 15 D6 (out), 16 VDD (power)

## MicroSD
designator U?, comment SD_CARD
SD/MMC holder; Name: SD/MMC; Price: 10000
footprint MICROSD2
pins: 1 NC-DAT2, 2 CS-CD/DAT3 (in), 3 DI-CMD (in), 4 VDD, 5 SCLK-CLK (in), 6 GND, 7 DO-DAT0 (out), 8 NC-DAT1, 9 NC, 10 GND, 11 GND, 12 GND, 13 GND

## MM74C922
designator IC?, comment 74C922
16 Key Encoder With Debouncer; Value: MM74C922
footprint DIP18/W0.3 (18 PIN, W 300mil, Pin to pin 100mil)
3D model DIP18 (PCB3D Model)
pins: 1 R1, 2 R2, 3 R3, 4 R4, 5 OSC, 6 KBM, 7 X4, 8 X3, 9 GND hidden to GND, 10 X2, 11 X1, 12 DA, 13 OE, 14 D, 15 C, 16 B, 17 A, 18 VCC

## MMA7455L
designator IC?, comment MMA7455
±2g/±4g/±8g Three Axis Low-g  Digital Output Accelerometer
footprint MMA7455
pins: 1 DVdd_IO, 2 GND, 3 N/C, 4 IADDR0, 5 GND, 6 AVdd, 7 CS, 8 INT1, 9 INT2, 10 N/C, 11 Reserved, 12 SDO, 13 SDA/SDI/SDO, 14 SCL/SPC

## MOC3021
designator U?
Single Opto; Value: MOC3021
footprint DIP6/W0.3 (6 PIN, W 300mil, Pin to pin 100mil)
pins: 1 A "Anode", 2 K "Cathode", 4 E "Emitter", 6 C "Collector"

## MQ-2
designator IC?
MQ-2 GAS SENSOR
footprint MQ-2 (MQ-2 GAS SENSOR)
pins: 1 A, 2 H, 3 A, 4 B, 5 H, 6 B

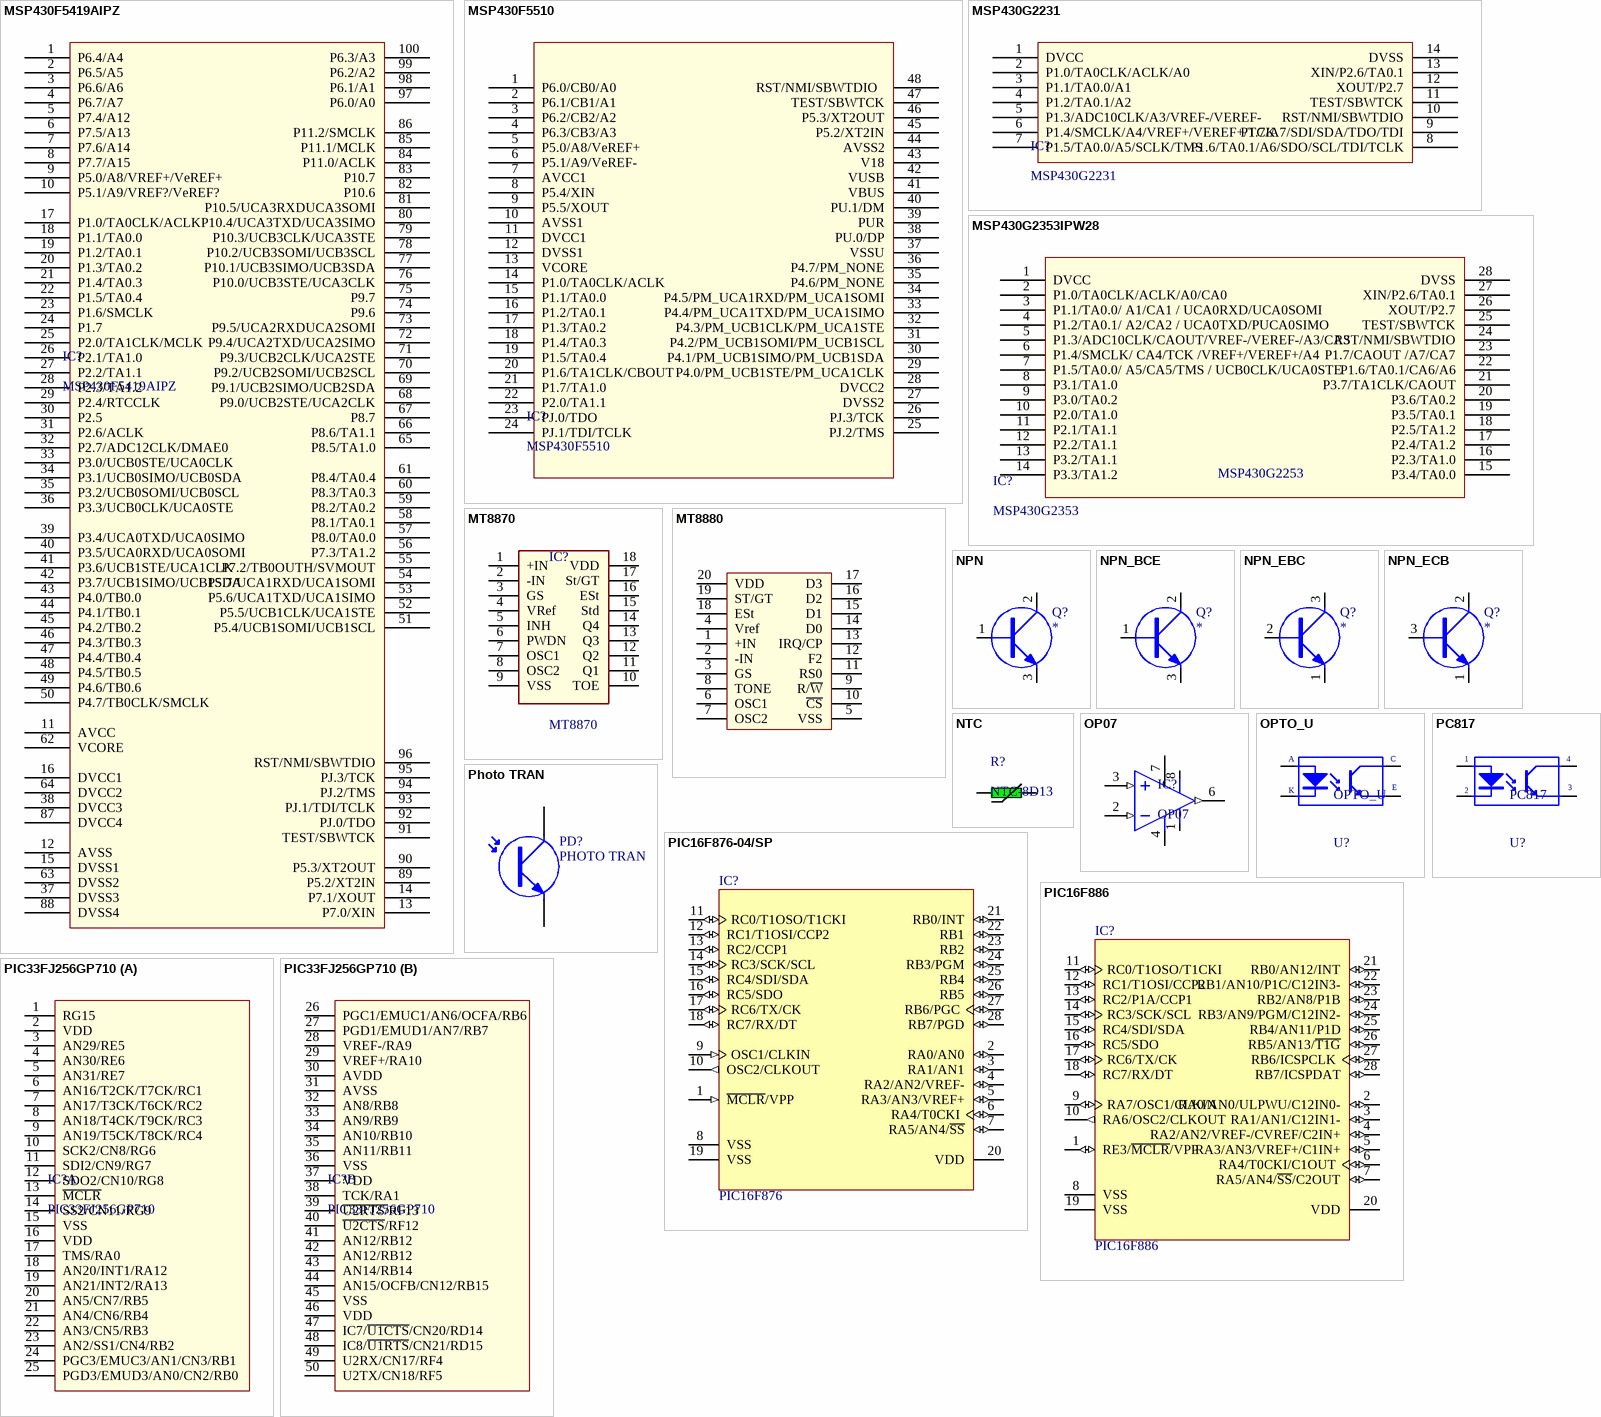
[diagram p14: symbols MSP430F5419AIPZ to PIC33FJ256GP710]

## MSP430F5419AIPZ
designator IC?
pins: 1 P6.4/A4, 2 P6.5/A5, 3 P6.6/A6, 4 P6.7/A7, 5 P7.4/A12, 6 P7.5/A13, 7 P7.6/A14, 8 P7.7/A15, 9 P5.0/A8/VREF+/VeREF+, 10 P5.1/A9/VREF?/VeREF?, 11 AVCC, 12 AVSS, 13 P7.0/XIN, 14 P7.1/XOUT, 15 DVSS1, 16 DVCC1, 17 P1.0/TA0CLK/ACLK, 18 P1.1/TA0.0, 19 P1.2/TA0.1, 20 P1.3/TA0.2, 21 P1.4/TA0.3, 22 P1.5/TA0.4, 23 P1.6/SMCLK, 24 P1.7, 25 P2.0/TA1CLK/MCLK, 26 P2.1/TA1.0, 27 P2.2/TA1.1, 28 P2.3/TA1.2, 29 P2.4/RTCCLK, 30 P2.5, 31 P2.6/ACLK, 32 P2.7/ADC12CLK/DMAE0, 33 P3.0/UCB0STE/UCA0CLK, 34 P3.1/UCB0SIMO/UCB0SDA, 35 P3.2/UCB0SOMI/UCB0SCL, 36 P3.3/UCB0CLK/UCA0STE, 37 DVSS3, 38 DVCC3, 39 P3.4/UCA0TXD/UCA0SIMO, 40 P3.5/UCA0RXD/UCA0SOMI, 41 P3.6/UCB1STE/UCA1CLK, 42 P3.7/UCB1SIMO/UCB1SDA, 43 P4.0/TB0.0, 44 P4.1/TB0.1, 45 P4.2/TB0.2, 46 P4.3/TB0.3, 47 P4.4/TB0.4, 48 P4.5/TB0.5, 49 P4.6/TB0.6, 50 P4.7/TB0CLK/SMCLK, 51 P5.4/UCB1SOMI/UCB1SCL, 52 P5.5/UCB1CLK/UCA1STE, 53 P5.6/UCA1TXD/UCA1SIMO, 54 P5.7/UCA1RXD/UCA1SOMI, 55 P7.2/TB0OUTH/SVMOUT, 56 P7.3/TA1.2, 57 P8.0/TA0.0, 58 P8.1/TA0.1, 59 P8.2/TA0.2, 60 P8.3/TA0.3, 61 P8.4/TA0.4, 62 VCORE, 63 DVSS2, 64 DVCC2, 65 P8.5/TA1.0, 66 P8.6/TA1.1, 67 P8.7, 68 P9.0/UCB2STE/UCA2CLK, 69 P9.1/UCB2SIMO/UCB2SDA, 70 P9.2/UCB2SOMI/UCB2SCL, 71 P9.3/UCB2CLK/UCA2STE, 72 P9.4/UCA2TXD/UCA2SIMO, 73 P9.5/UCA2RXDUCA2SOMI, 74 P9.6, 75 P9.7, 76 P10.0/UCB3STE/UCA3CLK, 77 P10.1/UCB3SIMO/UCB3SDA, 78 P10.2/UCB3SOMI/UCB3SCL, 79 P10.3/UCB3CLK/UCA3STE, 80 P10.4/UCA3TXD/UCA3SIMO, 81 P10.5/UCA3RXDUCA3SOMI, 82 P10.6, 83 P10.7, 84 P11.0/ACLK, 85 P11.1/MCLK, 86 P11.2/SMCLK, 87 DVCC4, 88 DVSS4, 89 P5.2/XT2IN, 90 P5.3/XT2OUT, 91 TEST/SBWTCK, 92 PJ.0/TDO, 93 PJ.1/TDI/TCLK, 94 PJ.2/TMS, 95 PJ.3/TCK, 96 RST/NMI/SBWTDIO, 97 P6.0/A0, 98 P6.1/A1, 99 P6.2/A2, 100 P6.3/A3

## MSP430F5510
designator IC?
pins: 1 P6.0/CB0/A0, 2 P6.1/CB1/A1, 3 P6.2/CB2/A2, 4 P6.3/CB3/A3, 5 P5.0/A8/VeREF+, 6 P5.1/A9/VeREF-, 7 AVCC1, 8 P5.4/XIN, 9 P5.5/XOUT, 10 AVSS1, 11 DVCC1, 12 DVSS1, 13 VCORE, 14 P1.0/TA0CLK/ACLK, 15 P1.1/TA0.0, 16 P1.2/TA0.1, 17 P1.3/TA0.2, 18 P1.4/TA0.3, 19 P1.5/TA0.4, 20 P1.6/TA1CLK/CBOUT, 21 P1.7/TA1.0, 22 P2.0/TA1.1, 23 PJ.0/TDO, 24 PJ.1/TDI/TCLK, 25 PJ.2/TMS, 26 PJ.3/TCK, 27 DVSS2, 28 DVCC2, 29 P4.0/PM_UCB1STE/PM_UCA1CLK, 30 P4.1/PM_UCB1SIMO/PM_UCB1SDA, 31 P4.2/PM_UCB1SOMI/PM_UCB1SCL, 32 P4.3/PM_UCB1CLK/PM_UCA1STE, 33 P4.4/PM_UCA1TXD/PM_UCA1SIMO, 34 P4.5/PM_UCA1RXD/PM_UCA1SOMI, 35 P4.6/PM_NONE, 36 P4.7/PM_NONE, 37 VSSU, 38 PU.0/DP, 39 PUR, 40 PU.1/DM, 41 VBUS, 42 VUSB, 43 V18, 44 AVSS2, 45 P5.2/XT2IN, 46 P5.3/XT2OUT, 47 TEST/SBWTCK, 48 RST/NMI/SBWTDIO  

## MSP430G2231
designator IC?
footprint TSOP-14 (TSOP, 14-Leads, Body 5,1x4,5mm (max), Pitch 0,65mm, IPC Medium Density)
pins: 1 DVCC, 2 P1.0/TA0CLK/ACLK/A0, 3 P1.1/TA0.0/A1, 4 P1.2/TA0.1/A2, 5 P1.3/ADC10CLK/A3/VREF-/VEREF-, 6 P1.4/SMCLK/A4/VREF+/VEREF+/TCK, 7 P1.5/TA0.0/A5/SCLK/TMS, 8 P1.6/TA0.1/A6/SDO/SCL/TDI/TCLK, 9 P1.7/A7/SDI/SDA/TDO/TDI, 10 RST/NMI/SBWTDIO, 11 TEST/SBWTCK, 12 XOUT/P2.7, 13 XIN/P2.6/TA0.1, 14 DVSS

## MSP430G2353IPW28
designator IC?, comment MSP430G2353
MIXED SIGNAL MICROCONTROLLER
footprint TSOP65P640X120-28N (TSOP, 28-Leads, Body 9,8x4,5mm (max), Pitch 0,65mm, IPC Medium Density)
pins: 1 DVCC, 2 P1.0/TA0CLK/ACLK/A0/CA0, 3 P1.1/TA0.0/ A1/CA1 / UCA0RXD/UCA0SOMI, 4 P1.2/TA0.1/ A2/CA2 / UCA0TXD/PUCA0SIMO, 5 P1.3/ADC10CLK/CAOUT/VREF-/VEREF-/A3/CA3, 6 P1.4/SMCLK/ CA4/TCK /VREF+/VEREF+/A4, 7 P1.5/TA0.0/ A5/CA5/TMS / UCB0CLK/UCA0STE, 8 P3.1/TA1.0, 9 P3.0/TA0.2, 10 P2.0/TA1.0, 11 P2.1/TA1.1, 12 P2.2/TA1.1, 13 P3.2/TA1.1, 14 P3.3/TA1.2, 15 P3.4/TA0.0, 16 P2.3/TA1.0, 17 P2.4/TA1.2, 18 P2.5/TA1.2, 19 P3.5/TA0.1, 20 P3.6/TA0.2, 21 P3.7/TA1CLK/CAOUT, 22 P1.6/TA0.1/CA6/A6, 23 P1.7/CAOUT /A7/CA7, 24 RST/NMI/SBWTDIO, 25 TEST/SBWTCK, 26 XOUT/P2.7, 27 XIN/P2.6/TA0.1, 28 DVSS
text: MSP430G2253

## MT8870
designator IC?
DTMF RECEIVER IC MT8870 TESTER; Value: MT8068
footprint DIP18/W0.3 (18 PIN, W 300mil, Pin to pin 100mil)
pins: 1 +IN, 2 -IN, 3 GS, 4 VRef, 5 INH, 6 PWDN, 7 OSC1, 8 OSC2, 9 VSS, 10 TOE, 11 Q1, 12 Q2, 13 Q3, 14 Q4, 15 Std, 16 ESt, 17 St/GT, 18 VDD

## MT8880
designator IC?, comment MT8880C
Integrated DTMF Transceiver; Value: DIP20; Value: MT8880C
footprint DIP20/W0.3 (DIP 20, 20 PIN, W 300mil, Pin to pin 100mil)
pins: 1 +IN, 2 -IN, 3 GS, 4 Vref, 5 VSS, 6 OSC1, 7 OSC2, 8 TONE, 9 R/~{W}, 10 ~{CS}, 11 RS0, 12 F2, 13 IRQ/CP, 14 D0, 15 D1, 16 D2, 17 D3, 18 ESt, 19 ST/GT, 20 VDD

## NPN
designator Q?
NPN Transistor
footprint QTO-92 (TO-92)
footprint TO-SMD
footprint QTO-92C
footprint QTO-220 (TO-220 - 1-2-3)
footprint QTO-220A (TO-220 - 3-2-1)
footprint QTO-220B (TO-220 - 1-2-3)
pins: 1, 2, 3

## NPN_BCE
designator Q?
NPN Transistor
footprint QTO-92 (TO-92)
footprint TO-SMD
footprint QTO-92C
footprint QTO-220 (TO-220 - 1-2-3)
footprint QTO-220A (TO-220 - 3-2-1)
footprint QTO-220B (TO-220 - 1-2-3)
pins: 1 B, 2 C, 3 E

## NPN_EBC
designator Q?
NPN Transistor
footprint QTO-92 (TO-92)
footprint TO-SMD
footprint QTO-92C
footprint QTO-220 (TO-220 - 1-2-3)
footprint QTO-220B (TO-220 - 1-2-3)
pins: 1 E, 2 B, 3 C

## NPN_ECB
designator Q?
NPN Transistor
footprint QTO-92 (TO-92)
footprint TO-SMD
footprint QTO-92C
footprint QTO-220 (TO-220 - 1-2-3)
footprint QTO-220B (TO-220 - 1-2-3)
pins: 1 E, 2 C, 3 B

## NTC
designator R?, comment NTC-8D13
NTC THERMISTORS; Value: NTC
footprint NTC D13
pins: 1, 2

## OP07
designator IC?
Single OA
footprint DIP8/W0.3 (8 PIN, W 300mil, Pin to pin 100mil)
pins: 1 Vos, 2 IN- (in), 3 IN+ (in), 4 -V, 6 OUT (out), 7 +V, 8 Vos

## OPTO_U
designator U?
Single Opto; Value: TLP5211
footprint OPTO_U (Opto hinh chu U)
footprint ENCODER
pins: A "Anode", C "Collector", E "Emitter", K "Cathode"

## PC817
designator U?
Single Opto; Value: PC817
footprint DIP4/W0.3 (4 PIN, W 300mil, Pin to pin 100mil)
pins: 1 A "Anode", 2 K "Cathode", 3 E "Emitter", 4 C "Collector"

## Photo TRAN
designator PD?, comment PHOTO TRAN
Published: 24-Mar-1999; LatestRevisionDate: 17-Jul-2002; LatestRevisionNote: Re-released for DXP Platform.; PackageReference: TO-220_A; Publisher: Altium Limited; Code_JEDEC: TO-220-AC
footprint LED-5 (Footprint not found)
pins: 1 C, 2 E

## PIC16F876-04/SP
designator IC?, comment PIC16F876
8-Bit CMOS FLASH Microcontroller, 8K x 14 words FLASH, 368 x 8 Bytes RAM, 4 MHz, 28-Pin PDIP 300mil, 4 to 5.5V VDD Range, Commercial Temperature
footprint PDIP300-28 (DIP, Plastic, Skinny; 28 Leads; Row Spacing 7.62 mm; Pitch 2.54 mm)
3D model PDIP300-28 (DIP, Plastic, Skinny; 28 Leads; Row Spacing 7.62 mm; Pitch 2.54 mm)
footprint DIP28/w0.3 (28 PIN, W 300mil, Pin to pin 100mil)
pins: 1 ~{MCLR}/VPP (in), 2 RA0/AN0 (io), 3 RA1/AN1 (io), 4 RA2/AN2/VREF- (io), 5 RA3/AN3/VREF+ (io), 6 RA4/T0CKI (io), 7 RA5/AN4/~{SS} (io), 8 VSS (power), 9 OSC1/CLKIN (in), 10 OSC2/CLKOUT (out), 11 RC0/T1OSO/T1CKI (io), 12 RC1/T1OSI/CCP2 (io), 13 RC2/CCP1 (io), 14 RC3/SCK/SCL (io), 15 RC4/SDI/SDA (io), 16 RC5/SDO (io), 17 RC6/TX/CK (io), 18 RC7/RX/DT (io), 19 VSS (power), 20 VDD (power), 21 RB0/INT (io), 22 RB1 (io), 23 RB2 (io), 24 RB3/PGM (io), 25 RB4 (io), 26 RB5 (io), 27 RB6/PGC (io), 28 RB7/PGD (io)

## PIC16F886
designator IC?
8-Bit CMOS FLASH Microcontroller, 8K x 14 words FLASH, 368 x 8 Bytes RAM, 4 MHz, 28-Pin PDIP 300mil, 4 to 5.5V VDD Range, Commercial Temperature
footprint PDIP300-28 (DIP, Plastic, Skinny; 28 Leads; Row Spacing 7.62 mm; Pitch 2.54 mm)
3D model PDIP300-28 (DIP, Plastic, Skinny; 28 Leads; Row Spacing 7.62 mm; Pitch 2.54 mm)
footprint DIP28/W0.3 (28 PIN, W 300mil, Pin to pin 100mil)
pins: 1 RE3/~{MCLR}/VPP (io), 2 RA0/AN0/ULPWU/C12IN0- (io), 3 RA1/AN1/C12IN1- (io), 4 RA2/AN2/VREF-/CVREF/C2IN+ (io), 5 RA3/AN3/VREF+/C1IN+ (io), 6 RA4/T0CKI/C1OUT (io), 7 RA5/AN4/~{SS}/C2OUT (io), 8 VSS (power), 9 RA7/OSC1/CLKIN (io), 10 RA6/OSC2/CLKOUT (out), 11 RC0/T1OSO/T1CKI (io), 12 RC1/T1OSI/CCP2 (io), 13 RC2/P1A/CCP1 (io), 14 RC3/SCK/SCL (io), 15 RC4/SDI/SDA (io), 16 RC5/SDO (io), 17 RC6/TX/CK (io), 18 RC7/RX/DT (io), 19 VSS (power), 20 VDD (power), 21 RB0/AN12/INT (io), 22 RB1/AN10/P1C/C12IN3- (io), 23 RB2/AN8/P1B (io), 24 RB3/AN9/PGM/C12IN2- (io), 25 RB4/AN11/P1D (io), 26 RB5/AN13/~{T1G} (io), 27 RB6/ICSPCLK (io), 28 RB7/ICSPDAT (io)

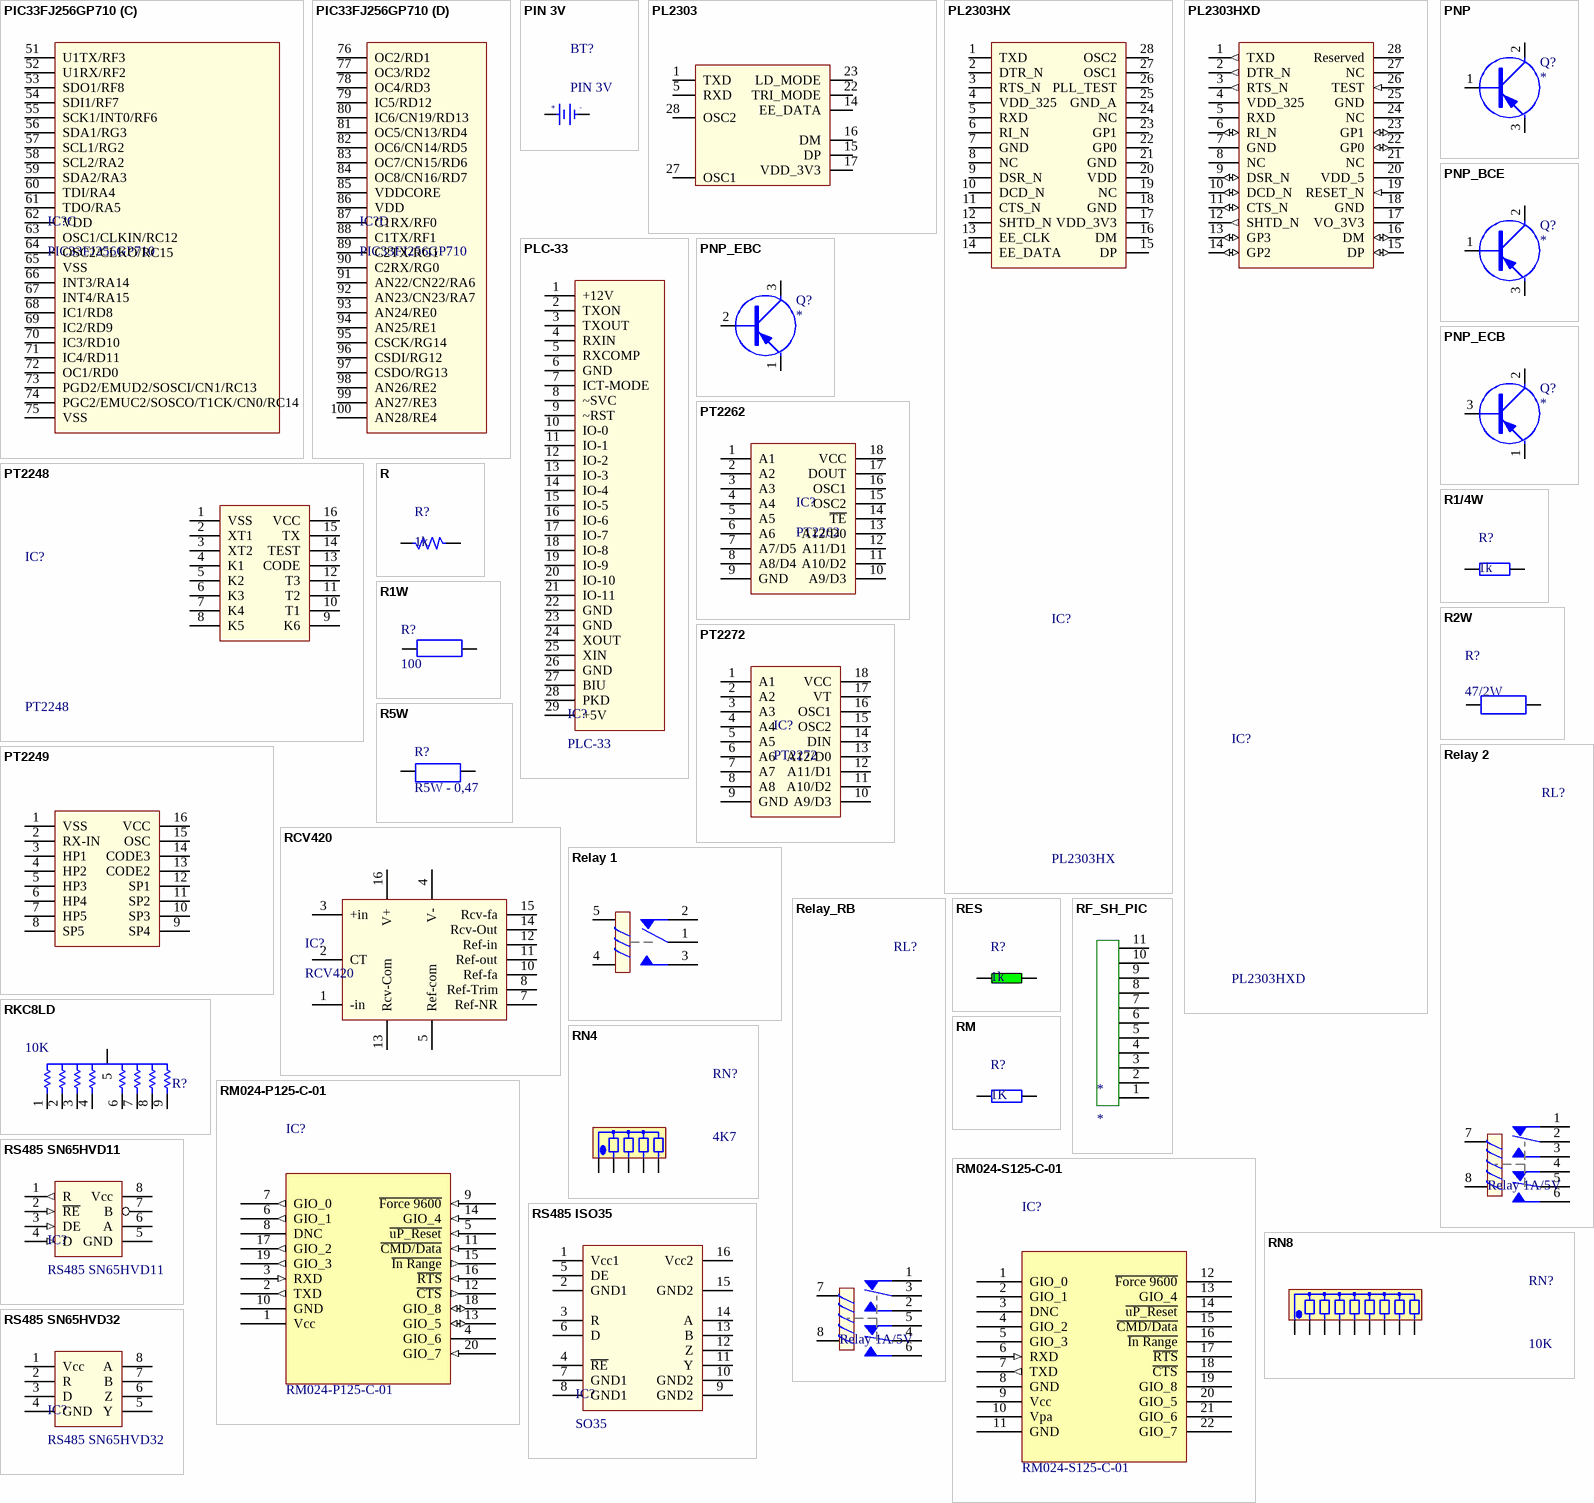
[diagram p15: symbols PIC33FJ256GP710 to RS485 SN65HVD32]

## PIC33FJ256GP710
designator IC?
Value: DIP100
footprint DIP100_2M (DIP100 - P-P 2mm)
footprint TQFP-100 (Footprint not found)
part A pins: 1 RG15, 2 VDD, 3 AN29/RE5, 4 AN30/RE6, 5 AN31/RE7, 6 AN16/T2CK/T7CK/RC1, 7 AN17/T3CK/T6CK/RC2, 8 AN18/T4CK/T9CK/RC3, 9 AN19/T5CK/T8CK/RC4, 10 SCK2/CN8/RG6, 11 SDI2/CN9/RG7, 12 SDO2/CN10/RG8, 13 ~{MCLR}, 14 SS2/CN11/RG9, 15 VSS, 16 VDD, 17 TMS/RA0, 18 AN20/INT1/RA12, 19 AN21/INT2/RA13, 20 AN5/CN7/RB5, 21 AN4/CN6/RB4, 22 AN3/CN5/RB3, 23 AN2/SS1/CN4/RB2, 24 PGC3/EMUC3/AN1/CN3/RB1, 25 PGD3/EMUD3/AN0/CN2/RB0
part B pins: 26 PGC1/EMUC1/AN6/OCFA/RB6, 27 PGD1/EMUD1/AN7/RB7, 28 VREF-/RA9, 29 VREF+/RA10, 30 AVDD, 31 AVSS, 32 AN8/RB8, 33 AN9/RB9, 34 AN10/RB10, 35 AN11/RB11, 36 VSS, 37 VDD, 38 TCK/RA1, 39 ~{U2RTS}/RF13, 40 ~{U2CTS}/RF12, 41 AN12/RB12, 42 AN12/RB12, 43 AN14/RB14, 44 AN15/OCFB/CN12/RB15, 45 VSS, 46 VDD, 47 IC7/~{U1CTS}/CN20/RD14, 48 IC8/~{U1RTS}/CN21/RD15, 49 U2RX/CN17/RF4, 50 U2TX/CN18/RF5
part C pins: 51 U1TX/RF3, 52 U1RX/RF2, 53 SDO1/RF8, 54 SDI1/RF7, 55 SCK1/INT0/RF6, 56 SDA1/RG3, 57 SCL1/RG2, 58 SCL2/RA2, 59 SDA2/RA3, 60 TDI/RA4, 61 TDO/RA5, 62 VDD, 63 OSC1/CLKIN/RC12, 64 OSC2/CLKO/RC15, 65 VSS, 66 INT3/RA14, 67 INT4/RA15, 68 IC1/RD8, 69 IC2/RD9, 70 IC3/RD10, 71 IC4/RD11, 72 OC1/RD0, 73 PGD2/EMUD2/SOSCI/CN1/RC13, 74 PGC2/EMUC2/SOSCO/T1CK/CN0/RC14, 75 VSS
part D pins: 76 OC2/RD1, 77 OC3/RD2, 78 OC4/RD3, 79 IC5/RD12, 80 IC6/CN19/RD13, 81 OC5/CN13/RD4, 82 OC6/CN14/RD5, 83 OC7/CN15/RD6, 84 OC8/CN16/RD7, 85 VDDCORE, 86 VDD, 87 C1RX/RF0, 88 C1TX/RF1, 89 C2TX/RG1, 90 C2RX/RG0, 91 AN22/CN22/RA6, 92 AN23/CN23/RA7, 93 AN24/RE0, 94 AN25/RE1, 95 CSCK/RG14, 96 CSDI/RG12, 97 CSDO/RG13, 98 AN26/RE2, 99 AN27/RE3, 100 AN28/RE4

## PIN 3V
designator BT?
Battery 3VDC; Value: PIN 3V
footprint PIN3V (Socket PIN 3V)
footprint PIN 3V-S (Socket PIN 3V)
pins: 1 +3V, 2 GND
text: +; -

## PL2303
designator IC?
USB - RS232 Converter; Value: PL2303
footprint SO-G28/C6.8 (SSOP, Plastic; 28 Leads; Body Width 5.3 mm; Pitch 0.65 mm)
pins: 1 TXD, 2 DTR_N hidden, 3 RTS_N hidden, 4 VDD_232 hidden to VCC, 5 RXD, 6 RI_N hidden to GND, 7 GND hidden to GND, 8 VDD hidden to VCC, 9 DSR_N hidden to GND, 10 DCD_N hidden to GND, 11 CTS_N hidden to VCC, 12 SHTD_N hidden, 13 EE_CLK hidden, 14 EE_DATA, 15 DP, 16 DM, 17 VDD_3V3, 18 GND_3V3 hidden to GND, 19 RESET hidden to VCC, 20 VDD hidden to VCC, 21 GND hidden to GND, 22 TRI_MODE, 23 LD_MODE, 24 VDD_PLL hidden to VCC, 25 GND_PLL hidden to GND, 26 PLL_TEST hidden to GND, 27 OSC1, 28 OSC2

## PL2303HX
designator IC?
USB - RS232 Converter; Value: PL2303
footprint SO-G28/C6.8 (SSOP, Plastic; 28 Leads; Body Width 5.3 mm; Pitch 0.65 mm)
pins: 1 TXD, 2 DTR_N, 3 RTS_N, 4 VDD_325, 5 RXD, 6 RI_N, 7 GND, 8 NC, 9 DSR_N, 10 DCD_N, 11 CTS_N, 12 SHTD_N, 13 EE_CLK, 14 EE_DATA, 15 DP, 16 DM, 17 VDD_3V3, 18 GND, 19 NC, 20 VDD, 21 GND, 22 GP0, 23 GP1, 24 NC, 25 GND_A, 26 PLL_TEST, 27 OSC1, 28 OSC2

## PL2303HXD
designator IC?
USB - RS232 Converter; Value: PL2303
footprint SO-G28/C6.8 (SSOP, Plastic; 28 Leads; Body Width 5.3 mm; Pitch 0.65 mm)
pins: 1 TXD (out), 2 DTR_N (out), 3 RTS_N (out), 4 VDD_325, 5 RXD, 6 RI_N (io), 7 GND, 8 NC, 9 DSR_N (io), 10 DCD_N (io), 11 CTS_N (io), 12 SHTD_N (out), 13 GP3 (io), 14 GP2 (io), 15 DP (io), 16 DM (io), 17 VO_3V3, 18 GND, 19 RESET_N (in), 20 VDD_5, 21 NC, 22 GP0 (io), 23 GP1 (io), 24 NC, 25 GND, 26 TEST (in), 27 NC, 28 Reserved

## PLC-33
designator IC?
pins: 1 +12V (power), 2 TXON (power), 3 TXOUT (power), 4 RXIN (power), 5 RXCOMP (power), 6 GND (power), 7 ICT-MODE (power), 8 ~SVC (power), 9 ~RST (power), 10 IO-0 (power), 11 IO-1 (power), 12 IO-2 (power), 13 IO-3 (power), 14 IO-4 (power), 15 IO-5 (power), 16 IO-6 (power), 17 IO-7 (power), 18 IO-8 (power), 19 IO-9 (power), 20 IO-10 (power), 21 IO-11 (power), 22 GND (power), 23 GND (power), 24 XOUT (power), 25 XIN (power), 26 GND (power), 27 BIU (power), 28 PKD (power), 29 +5V (power)

## PNP
designator Q?
PNP Transistor
footprint QTO-92 (TO-92)
footprint TO-SMD
footprint QTO-92C
footprint QTO-220 (TO-220 - 1-2-3)
footprint QTO-220A (TO-220 - 3-2-1)
footprint QTO-220B (TO-220 - 1-2-3)
pins: 1, 2, 3

## PNP_BCE
designator Q?
PNP Transistor
footprint QTO-92 (TO-92)
footprint TO-SMD
footprint QTO-92C
footprint QTO-220 (TO-220 - 1-2-3)
footprint QTO-220A (TO-220 - 3-2-1)
footprint QTO-220B (TO-220 - 1-2-3)
pins: 1 B, 2 C, 3 E

## PNP_EBC
designator Q?
PNP Transistor
footprint QTO-92 (TO-92)
footprint TO-SMD
footprint QTO-92C
footprint QTO-220 (TO-220 - 1-2-3)
footprint QTO-220B (TO-220 - 1-2-3)
pins: 1 E, 2 B, 3 C

## PNP_ECB
designator Q?
PNP Transistor
footprint QTO-92 (TO-92)
footprint TO-SMD
footprint QTO-92C
footprint QTO-220 (TO-220 - 1-2-3)
footprint QTO-220B (TO-220 - 1-2-3)
pins: 1 E, 2 C, 3 B

## PT2248
designator IC?
Remote Control Tranmitter; Value: PT2248
footprint DIP16/W0.3 (16 PIN, W 300mil, Pin to pin 100mil)
pins: 1 VSS, 2 XT1, 3 XT2, 4 K1, 5 K2, 6 K3, 7 K4, 8 K5, 9 K6, 10 T1, 11 T2, 12 T3, 13 CODE, 14 TEST, 15 TX, 16 VCC

## PT2249
designator IC?
Remote Control Receiver; Value: PT2249
footprint DIP16/W0.3 (16 PIN, W 300mil, Pin to pin 100mil)
pins: 1 VSS, 2 RX-IN, 3 HP1, 4 HP2, 5 HP3, 6 HP4, 7 HP5, 8 SP5, 9 SP4, 10 SP3, 11 SP2, 12 SP1, 13 CODE2, 14 CODE3, 15 OSC, 16 VCC

## PT2262
designator IC?
Remote Control Encoder
footprint DIP18/W0.3 (18 PIN, W 300mil, Pin to pin 100mil)
pins: 1 A1, 2 A2, 3 A3, 4 A4, 5 A5, 6 A6, 7 A7/D5, 8 A8/D4, 9 GND, 10 A9/D3, 11 A10/D2, 12 A11/D1, 13 A12/D0, 14 ~{TE}, 15 OSC2, 16 OSC1, 17 DOUT, 18 VCC

## PT2272
designator IC?
Remote Control Decoder
footprint DIP18/W0.3 (18 PIN, W 300mil, Pin to pin 100mil)
pins: 1 A1, 2 A2, 3 A3, 4 A4, 5 A5, 6 A6, 7 A7, 8 A8, 9 GND, 10 A9/D3, 11 A10/D2, 12 A11/D1, 13 A12/D0, 14 DIN, 15 OSC2, 16 OSC1, 17 VT, 18 VCC

## R
designator R?, comment 1k
Resistor 1/4W; Value: R1/4W - 1K
footprint SM-1206 (Compoment SMD 120x60mil)
footprint R1/8W (R 1/8W, 2 pin, 300mil)
footprint R1/4W (R 1/4W, 2 Pin, 350mil)
footprint R1/4WD (R 1/4W, 2 Pin, 150mil)
footprint R-0805 (Compoment SMD 80x50mil)
pins: 1, 2

## R1/4W
designator R?, comment 1k
Resistor 1/4W; Value: R1/4W - 1K
footprint R1/4W (R 1/4W, 2 Pin, 350mil)
footprint R1/8W (R 1/8W, 2 pin, 300mil)
footprint R1/2W (R 1/2W, 2 pin, 400mil)
footprint R1/4WD (R 1/4W, 2 Pin, 150mil)
pins: 1, 2

## R1W
designator R?, comment 100
Resistor 1W; Value: R1W - 100
footprint R1W (R 1W, 2 pin, 500mil)
footprint R1WD (R 1W, 2 pin, 500mil)
pins: 1, 2

## R2W
designator R?, comment 47/2W
Resistor 2W; Value: R2W - 47
footprint R2W (R2W, 2 pin, 700mil)
footprint R2WD (R2W, 2 pin, 700mil)
pins: 1, 2

## R5W
designator R?, comment R5W - 0,47
Resistor 5W; Value: R5W - 0,47R
footprint R5W (R5W , 2 pin, 950mil)
footprint R5WD (R5W , 2 pin, 300 x 600 mil)
pins: 1 "R5W", 2 "R5W"

## RCV420
designator IC?
Precision 4mA to 20mA  CURRENT LOOP RECEIVER; Designed by: VanDungEvn; Value: RCV420
footprint DIP16/W0.3 (16 PIN, W 300mil, Pin to pin 100mil)
pins: 1 -in, 2 CT, 3 +in, 4 V-, 5 Ref-com, 7 Ref-NR, 8 Ref-Trim, 10 Ref-fa, 11 Ref-out, 12 Ref-in, 13 Rcv-Com, 14 Rcv-Out, 15 Rcv-fa, 16 V+

## Relay 1
designator RL?, comment Relay 10A/12V
Relay SPDT,10A - 12VDC 5 Pin; Value: Relay SPDT, 10A, 12V
footprint RL_SPDT_10A (Relay SPDT, 5 pin, 10A,W 650mil, L 800mil, H 800mil)
pins: 1, 2, 3, 4, 5

## Relay 2
designator RL?, comment Relay 1A/5V
Relay DPDT; Discription: Relay DPDT 5V, 12V - 1A - 5A; Value: Relay - 5V - 1A
footprint RL_DPDT_5A (Reley DPDT, 8 pin, 5A, W500mil, L1100mil,H 950mil)
footprint RL_DPDT_1A (Reley DPDT, 8 pin, 1A, W400mil, L800mil,H 300mil)
pins: 1, 2, 3, 4, 5, 6, 7, 8

## Relay_RB
designator RL?, comment Relay 1A/5V
Relay DPDT; Discription: Relay DPDT 5V, 12V - 1A - 5A; Value: Relay - 5V - 1A
footprint RL_DPDT_5A (Reley DPDT, 8 pin, 5A, W500mil, L1100mil,H 950mil)
footprint RL_DPDT_1A (Reley DPDT, 8 pin, 1A, W400mil, L800mil,H 300mil)
pins: 1, 2, 3, 4, 5, 6, 7, 8

## RES
designator R?, comment 1k
Resistor 1/4W; Value: R1/4W - 1K
footprint SM-1206 (Compoment SMD 120x60mil)
footprint R1/8W (R 1/8W, 2 pin, 300mil)
footprint R1/4W (R 1/4W, 2 Pin, 350mil)
footprint R1/4WD (R 1/4W, 2 Pin, 150mil)
footprint R-0805 (Compoment SMD 80x50mil)
pins: 1, 2

## RF_SH_PIC
designator *
footprint RF_SH_PIC
pins: 1 Pad (power), 2 Pad (power), 3 Pad (power), 4 Pad (power), 5 Pad (power), 6 Pad (power), 7 Pad (power), 8 Pad (power), 9 Pad (power), 10 Pad (power), 11 Pad (power)

## RKC8LD
designator R?, comment 10K
Resistor Pack 4x2; Value: 10K
footprint RN8 (R SIP8, 9 Pin)
pins: 1, 2, 3, 4, 5, 6, 7, 8, 9

## RM
designator R?, comment 1K
Resistor SMD; Value: 1K
footprint SM-1206 (Compoment SMD 120x60mil)
footprint SM-0805 (Compoment SMD 80x50mil)
pins: 1, 2

## RM024-P125-C-01
designator IC?
footprint RM024-P125-C-01 (Footprint not found)
pins: 1 Vcc (power), 2 TXD (out), 3 RXD (in), 4 GIO_6, 5 ~{uP_Reset} (in), 6 GIO_1 (out), 7 GIO_0 (out), 8 DNC, 9 ~{Force 9600} (in), 10 GND, 11 ~{CMD/Data} (in), 12 ~{CTS} (out), 13 GIO_5 (io), 14 GIO_4 (in), 15 ~{In Range} (out), 16 ~{RTS} (in), 17 GIO_2 (out), 18 GIO_8 (io), 19 GIO_3 (out), 20 GIO_7 (in)

## RM024-S125-C-01
designator IC?
footprint RM024-S125-C-01
pins: 1 GIO_0, 2 GIO_1, 3 DNC, 4 GIO_2, 5 GIO_3, 6 RXD (in), 7 TXD (out), 8 GND, 9 Vcc (power), 10 Vpa, 11 GND, 12 ~{Force 9600}, 13 GIO_4, 14 ~{uP_Reset}, 15 ~{CMD/Data}, 16 ~{In Range}, 17 ~{RTS}, 18 ~{CTS}, 19 GIO_8, 20 GIO_5, 21 GIO_6, 22 GIO_7

## RN4
designator RN?, comment 4K7
Resistor 4 (thanh); Value: Tro thanh 4K7
footprint RN4 (R SIP4, 5 Pin)
pins: 1, 2, 3, 4, 5

## RN8
designator RN?, comment 10K
Resistor 8 (Thanh); Value: Tro thanh 10K
footprint RN8 (R SIP8, 9 Pin)
pins: 1, 2, 3, 4, 5, 6, 7, 8, 9

## RS485 ISO35
designator IC?, comment SO35
ISOLATED 3.3-V HALF AND FULL-DUPLEX RS-485 TRANSCEIVERS
pins: 1 Vcc1, 2 GND1, 3 R, 4 ~{RE}, 5 DE, 6 D, 7 GND1, 8 GND1, 9 GND2, 10 GND2, 11 Y, 12 Z, 13 B, 14 A, 15 GND2, 16 Vcc2

## RS485 SN65HVD11
designator IC?
3.3-V RS 485 TRANSCEIVERS
footprint SOIC-8 (SOIC, 8-Leads, Body 5,0x4,0mm (max), Pitch 1,27mm, IPC Medium Density)
pins: 1 R (out), 2 ~{RE} (in), 3 DE (in), 4 D (in), 5 GND (power), 6 A, 7 B, 8 Vcc (power)

## RS485 SN65HVD32
designator IC?
3.3 V Full-Duplex RS 485 Drivers and Receivers
pins: 1 Vcc, 2 R, 3 D, 4 GND, 5 Y, 6 Z, 7 B, 8 A

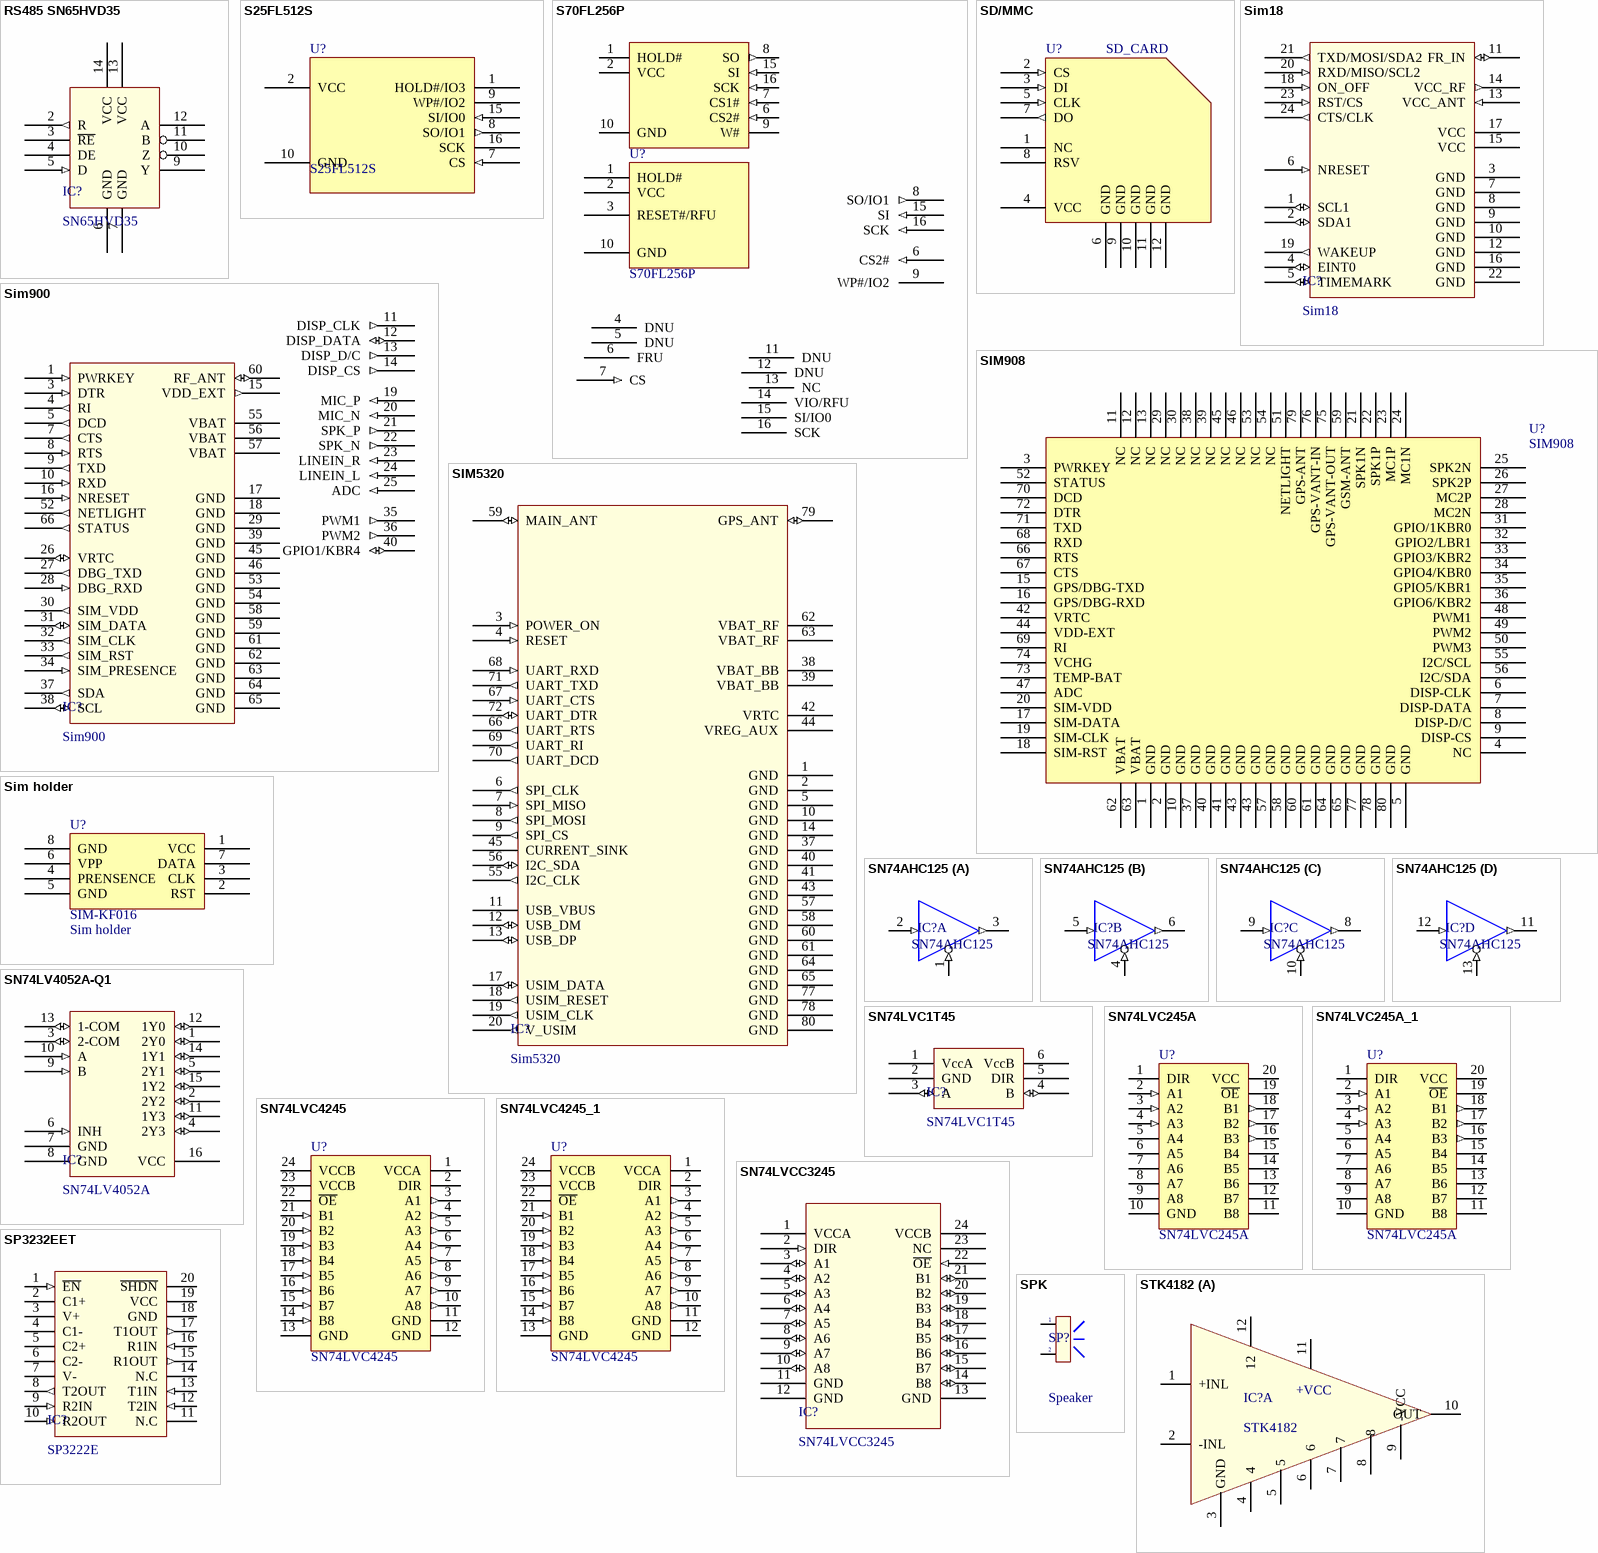
[diagram p16: symbols RS485 SN65HVD35 to STK4182]

## RS485 SN65HVD35
designator IC?, comment SN65HVD35
3.3 V Full-Duplex RS 485 Drivers and Receivers; SN65HVD35: Value
footprint SO-14 (SOIC, 14-Leads, Body 9.9x3.9mm, Pitch 1.27mm, IPC Medium Density)
pins: 1 NC hidden, 2 R (out), 3 ~{RE}, 4 DE, 5 D (in), 6 GND, 7 GND, 8 NC hidden, 9 Y, 10 Z, 11 B, 12 A, 13 VCC, 14 VCC

## S25FL512S
designator U?
S25FL512S 512 Mbit (64 Mbyte)
footprint SL3016 (SOIC, 16-Leads, Body 10.3x7.5mm (max), Pitch 1.27mm, IPC Medium Density)
pins: 1 HOLD#/IO3, 2 VCC (power), 3 RESET#/RFU hidden, 4 DNU hidden, 5 DNU hidden, 6 FRU hidden, 7 CS (in), 8 SO/IO1 (out), 9 WP#/IO2, 10 GND (power), 11 DNU hidden, 12 DNU hidden, 13 NC hidden, 14 VIO/RFU hidden, 15 SI/IO0 (in), 16 SCK

## S70FL256P
designator U?
S70FL256P0XMFI001
footprint SL3016 (SOIC, 16-Leads, Body 10.3x7.5mm (max), Pitch 1.27mm, IPC Medium Density)
pins: 1 HOLD#, 1 HOLD#, 2 VCC (power), 2 VCC (power), 3 RESET#/RFU, 4 DNU, 5 DNU, 6 CS2# (in), 6 FRU, 6 CS2# (in), 7 CS (in), 7 CS1# (in), 8 SO/IO1 (out), 8 SO (out), 9 WP#/IO2, 9 W#, 10 GND (power), 10 GND (power), 11 DNU, 12 DNU, 13 NC, 14 VIO/RFU, 15 SI (in), 15 SI/IO0, 15 SI (in), 16 SCK (in), 16 SCK, 16 SCK (in)

## SD/MMC
designator U?, comment SD_CARD
SD/MMC holder; Name: SD/MMC; Price: 10000
footprint SD
pins: 1 NC, 2 CS (in), 3 DI (in), 4 VCC, 5 CLK (in), 6 GND, 7 DO (out), 8 RSV, 9 GND, 10 GND, 11 GND, 12 GND

## Sim18
designator IC?
GPS Module
footprint Sim18
pins: 1 SCL1 (io), 2 SDA1 (io), 3 GND (power), 4 EINT0 (io), 5 TIMEMARK (io), 6 NRESET (in), 7 GND (power), 8 GND (power), 9 GND (power), 10 GND (power), 11 FR_IN (io), 12 GND (power), 13 VCC_ANT (in), 14 VCC_RF (out), 15 VCC (power), 16 GND (power), 17 VCC (power), 18 ON_OFF (in), 19 WAKEUP (out), 20 RXD/MISO/SCL2 (in), 21 TXD/MOSI/SDA2 (out), 22 GND (power), 23 RST/CS (in), 24 CTS/CLK (out)

## Sim900
designator IC?
GSM GPRS Module
footprint Sim900 (Sim900,QFN, 68-Leads, Body 24,0x24,0mm (max), Pitch 1,00mm, IPC Medium Density)
pins: 1 PWRKEY (in), 2 NC hidden, 3 DTR (in), 4 RI (out), 5 DCD (out), 6 NC hidden, 7 CTS (out), 8 RTS (in), 9 TXD (out), 10 RXD (in), 11 DISP_CLK (out), 12 DISP_DATA (io), 13 DISP_D/C (out), 14 DISP_CS (out), 15 VDD_EXT (out), 16 NRESET (in), 17 GND (power), 18 GND (power), 19 MIC_P (in), 20 MIC_N (in), 21 SPK_P (out), 22 SPK_N (out), 23 LINEIN_R (in), 24 LINEIN_L (in), 25 ADC (in), 26 VRTC (io), 27 DBG_TXD (out), 28 DBG_RXD (in), 29 GND (power), 30 SIM_VDD (out), 31 SIM_DATA (io), 32 SIM_CLK (out), 33 SIM_RST (out), 34 SIM_PRESENCE (in), 35 PWM1 (out), 36 PWM2 (out), 37 SDA (out), 38 SCL (io), 39 GND (power), 40 GPIO1/KBR4 (io), 41 GPIO2/KBR3 (io) hidden, 42 GPIO3/KPR2 (io) hidden, 43 GPIO4/KPR1 (io) hidden, 44 GPIO5/KPR0 (io) hidden, 45 GND (power), 46 GND (power), 47 GPIO6/KPC4 (io) hidden, 48 GPIO7/KBC3 (io) hidden, 49 GPIO8/KBC2 (io) hidden, 50 GPIO9/KBC1 (io) hidden, 51 GPIO10 (io) hidden, 52 NETLIGHT (out), 53 GND (power), 54 GND (power), 55 VBAT (power), 56 VBAT (power), 57 VBAT (power), 58 GND (power), 59 GND (power), 60 RF_ANT (io), 61 GND (power), 62 GND (power), 63 GND (power), 64 GND (power), 65 GND (power), 66 STATUS (out), 67 GPIO11 (out) hidden, 68 GPIO12 (out) hidden